# Altium schematic symbol library SparkFun-Retired.SCHLIB: 389 symbols (part 3 of 4)
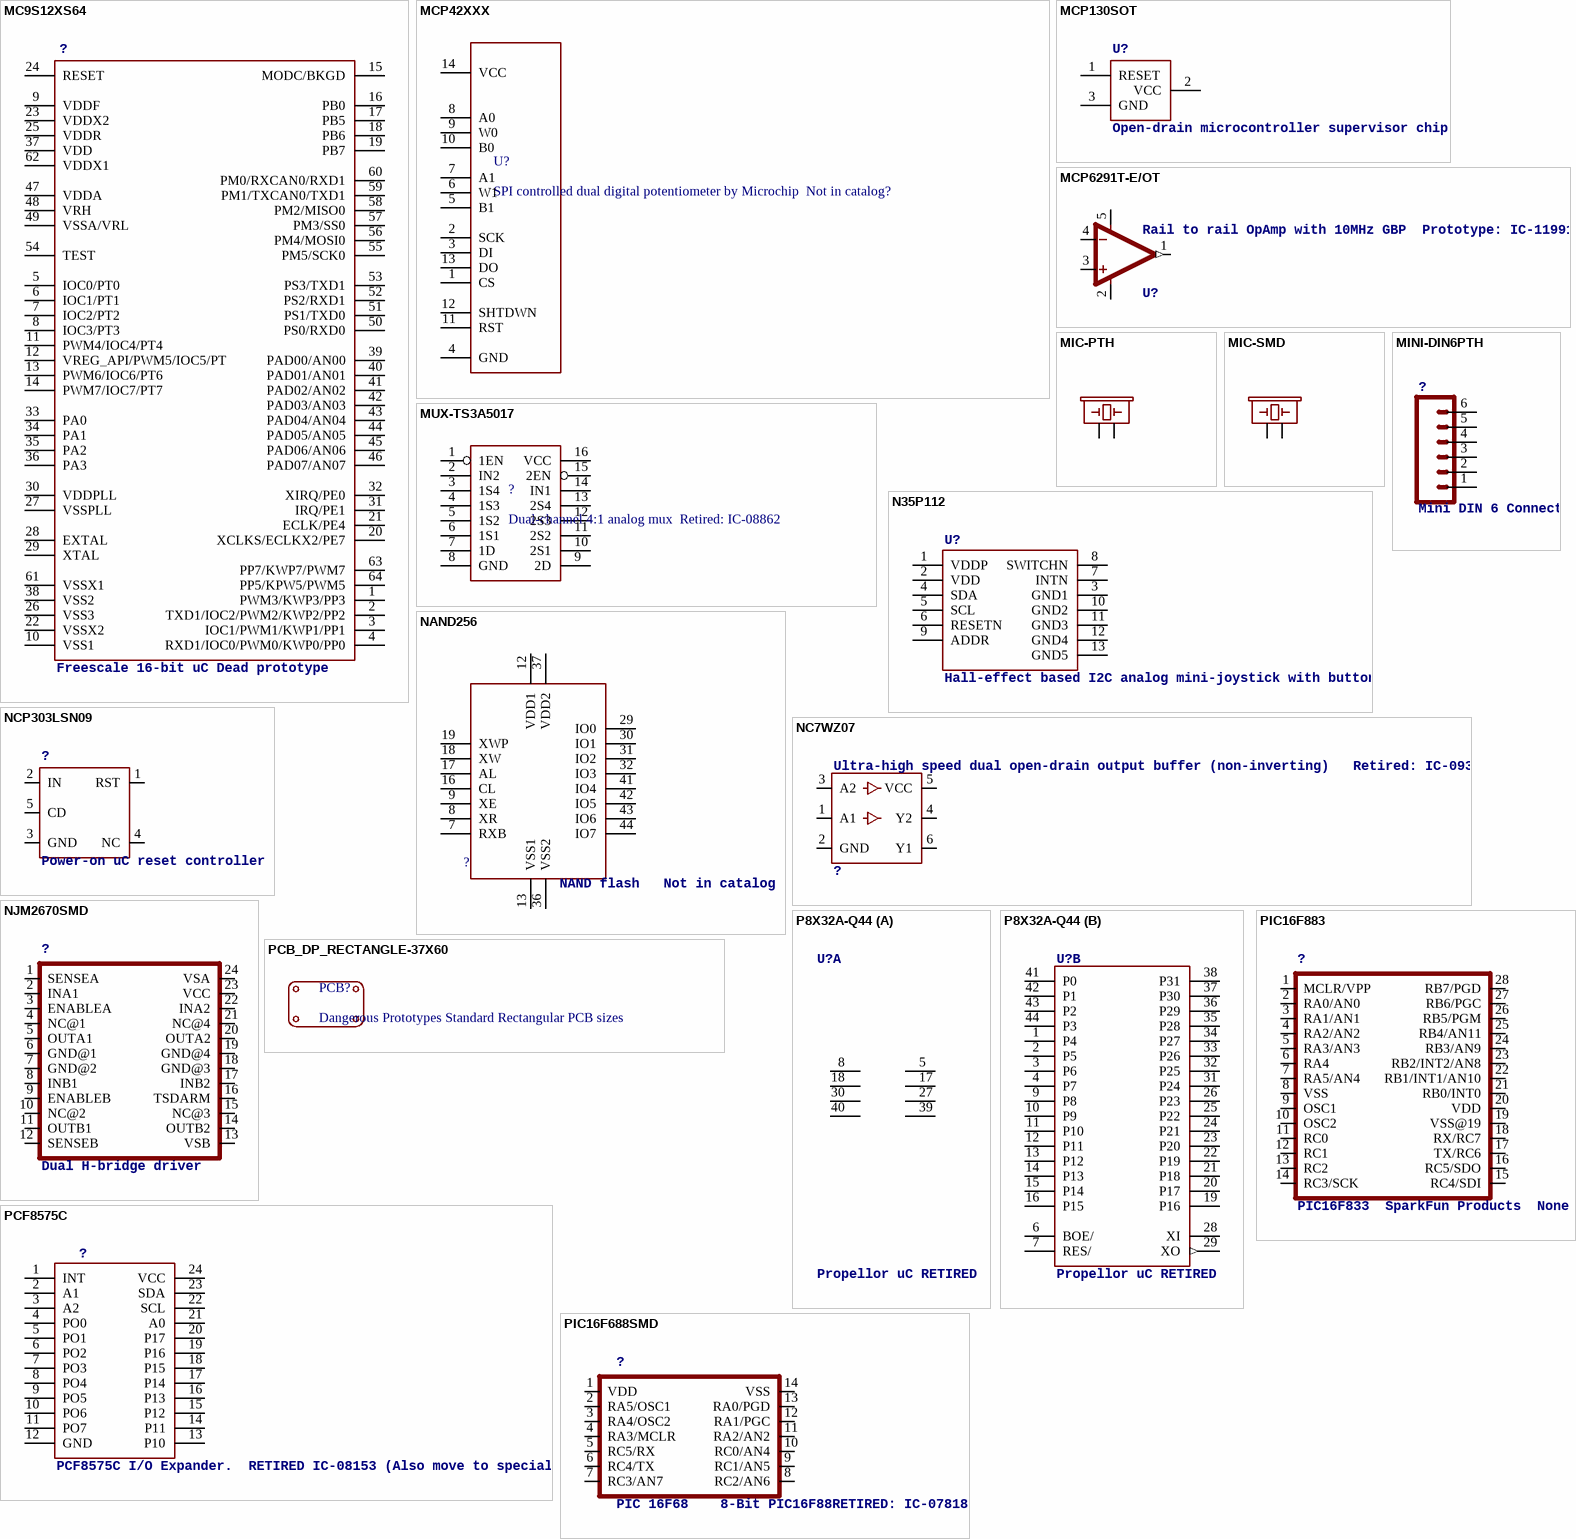
[diagram p31: symbols MC9S12XS64 to PIC16F883]

## MC9S12XS64
designator ?, comment Freescale 16-bit uC Dead prototype
PROD_ID: IC-09432
footprint SQFP-S-10X10-64_MCU
pins: 1 PWM3/KWP3/PP3, 2 TXD1/IOC2/PWM2/KWP2/PP2, 3 IOC1/PWM1/KWP1/PP1, 4 RXD1/IOC0/PWM0/KWP0/PP0, 5 IOC0/PT0, 6 IOC1/PT1, 7 IOC2/PT2, 8 IOC3/PT3, 9 VDDF, 10 VSS1, 11 PWM4/IOC4/PT4, 12 VREG_API/PWM5/IOC5/PT, 13 PWM6/IOC6/PT6, 14 PWM7/IOC7/PT7, 15 MODC/BKGD, 16 PB0, 17 PB5, 18 PB6, 19 PB7, 20 XCLKS/ECLKX2/PE7, 21 ECLK/PE4, 22 VSSX2, 23 VDDX2, 24 RESET, 25 VDDR, 26 VSS3, 27 VSSPLL, 28 EXTAL, 29 XTAL, 30 VDDPLL, 31 IRQ/PE1, 32 XIRQ/PE0, 33 PA0, 34 PA1, 35 PA2, 36 PA3, 37 VDD, 38 VSS2, 39 PAD00/AN00, 40 PAD01/AN01, 41 PAD02/AN02, 42 PAD03/AN03, 43 PAD04/AN04, 44 PAD05/AN05, 45 PAD06/AN06, 46 PAD07/AN07, 47 VDDA, 48 VRH, 49 VSSA/VRL, 50 PS0/RXD0, 51 PS1/TXD0, 52 PS2/RXD1, 53 PS3/TXD1, 54 TEST, 55 PM5/SCK0, 56 PM4/MOSI0, 57 PM3/SS0, 58 PM2/MISO0, 59 PM1/TXCAN0/TXD1, 60 PM0/RXCAN0/RXD1, 61 VSSX1, 62 VDDX1, 63 PP7/KWP7/PWM7, 64 PP5/KPW5/PWM5

## MCP42XXX
designator U?, comment SPI controlled dual digital potentiometer by Microchip  Not in catalog?
footprint SO014
pins: 1 CS, 2 SCK, 3 DI, 4 GND, 5 B1, 6 W1, 7 A1, 8 A0, 9 W0, 10 B0, 11 RST, 12 SHTDWN, 13 DO, 14 VCC

## MCP130SOT
designator U?, comment Open-drain microcontroller supervisor chip
footprint SOT23-3
pins: 1 RESET, 2 VCC, 3 GND

## MCP6291T-E/OT
designator U?, comment Rail to rail OpAmp with 10MHz GBP  Prototype: IC-11991
PROD_ID: IC-11991
footprint SOT23-5
pins: 1 OUT (out), 2 V- (power), 3 +IN, 4 -IN, 5 V+ (power)

## MIC-PTH
designator MK?, comment Microphone    Omni-directional electret microphones - one through-hole, the other SMD.   Datasheet (through-hole mic)   Datasheet (SMD mic) SparkFun Products  PTH Electret Microphone (COM-08635)  SparkFun Electret Microphone Breakout  (BOB-09964)  Digital Sandbox (DEV-12651)  SparkFun Sound Detector (SEN-12642)     SMD Microphone SparkFun Voice Recorder Breakout - ISD1932 (BOB-10653)
PROD_ID: COMP-08856; SF_ID: COM-08635
footprint MICROPHONE-PTH-9.7MM
pins: 1, 2

## MIC-SMD
designator MK?, comment Microphone    Omni-directional electret microphones - one through-hole, the other SMD.   Datasheet (through-hole mic)   Datasheet (SMD mic) SparkFun Products  PTH Electret Microphone (COM-08635)  SparkFun Electret Microphone Breakout  (BOB-09964)  Digital Sandbox (DEV-12651)  SparkFun Sound Detector (SEN-12642)     SMD Microphone SparkFun Voice Recorder Breakout - ISD1932 (BOB-10653)
PROD_ID: COMP-10458
footprint MICROPHONE-SMD-6MM
pins: 1, 2

## MINI-DIN6PTH
designator ?, comment Mini DIN 6 Connector SparkFun used to sell this connector and has used it on a couple designs, however the connector and the designs are now retired.   Mini DIN 6 Connector [RETIRED]  SparkFun Key Counter - PS2 [RETIRED]  Commonly found on the back of a computer for PS2 keyboard and mice. Schematic and footprint are proven.
footprint MINI-DIN6
pins: 1, 2, 3, 4, 5, 6

## MUX-TS3A5017
designator ?, comment Dual-channel 4:1 analog mux  Retired: IC-08862
footprint SO16
pins: 1 1EN, 2 IN2, 3 1S4, 4 1S3, 5 1S2, 6 1S1, 7 1D, 8 GND, 9 2D, 10 2S1, 11 2S2, 12 2S3, 13 2S4, 14 IN1, 15 2EN, 16 VCC

## N35P112
designator U?, comment Hall-effect based I2C analog mini-joystick with button
PROD_ID: SWCH-10635
footprint N35P112
pins: 1 VDDP, 2 VDD, 3 GND1, 4 SDA, 5 SCL, 6 RESETN, 7 INTN, 8 SWITCHN, 9 ADDR, 10 GND2, 11 GND3, 12 GND4, 13 GND5

## NAND256
designator ?, comment NAND flash   Not in catalog
footprint TSOP48
pins: 7 RXB, 8 XR, 9 XE, 12 VDD1, 13 VSS1, 16 CL, 17 AL, 18 XW, 19 XWP, 29 IO0, 30 IO1, 31 IO2, 32 IO3, 36 VSS2, 37 VDD2, 41 IO4, 42 IO5, 43 IO6, 44 IO7

## NC7WZ07
designator ?, comment Ultra-high speed dual open-drain output buffer (non-inverting)   Retired: IC-09351
footprint SC70-6
pins: 1 A1, 2 GND, 3 A2, 4 Y2, 5 VCC, 6 Y1

## NCP303LSN09
designator ?, comment Power-on uC reset controller
footprint SOT23-5
pins: 1 RST, 2 IN, 3 GND, 4 NC, 5 CD

## NJM2670SMD
designator ?, comment Dual H-bridge driver
footprint SO-24W
pins: 1 SENSEA, 2 INA1, 3 ENABLEA, 4 NC@1, 5 OUTA1 (power), 6 GND@1 (power), 7 GND@2, 8 INB1, 9 ENABLEB, 10 NC@2, 11 OUTB1, 12 SENSEB, 13 VSB, 14 OUTB2, 15 NC@3, 16 TSDARM, 17 INB2, 18 GND@3, 19 GND@4 (power), 20 OUTA2 (power), 21 NC@4, 22 INA2, 23 VCC, 24 VSA

## P8X32A-Q44
designator U?, comment Propellor uC RETIRED
PROD_ID: IC-10929
footprint P8X32A-Q44_MCU
part A pins: 5 VSS@1 (power), 8 VDD@1 (power), 17 VSS@2 (power), 18 VDD@2 (power), 27 VSS@3 (power), 30 VDD@3 (power), 39 VSS@4 (power), 40 VDD@4 (power)
part B pins: 1 P4, 2 P5, 3 P6, 4 P7, 6 BOE/, 7 RES/, 9 P8, 10 P9, 11 P10, 12 P11, 13 P12, 14 P13, 15 P14, 16 P15, 19 P16, 20 P17, 21 P18, 22 P19, 23 P20, 24 P21, 25 P22, 26 P23, 28 XI, 29 XO (out), 31 P24, 32 P25, 33 P26, 34 P27, 35 P28, 36 P29, 37 P30, 38 P31, 41 P0, 42 P1, 43 P2, 44 P3

## PCB_DP_RECTANGLE-37X60
designator PCB?, comment Dangerous Prototypes Standard Rectangular PCB sizes
footprint DP6037_V1

## PCF8575C
designator ?, comment PCF8575C I/O Expander.  RETIRED IC-08153 (Also move to special)
footprint SO-24DW
pins: 1 INT, 2 A1, 3 A2, 4 PO0, 5 PO1, 6 PO2, 7 PO3, 8 PO4, 9 PO5, 10 PO6, 11 PO7, 12 GND, 13 P10, 14 P11, 15 P12, 16 P13, 17 P14, 18 P15, 19 P16, 20 P17, 21 A0, 22 SCL, 23 SDA, 24 VCC

## PIC16F688SMD
designator ?, comment PIC 16F68    8-Bit PIC16F88RETIRED: IC-07818
footprint SO14_MCU
pins: 1 VDD (power), 2 RA5/OSC1, 3 RA4/OSC2, 4 RA3/MCLR, 5 RC5/RX, 6 RC4/TX, 7 RC3/AN7, 8 RC2/AN6, 9 RC1/AN5, 10 RC0/AN4, 11 RA2/AN2, 12 RA1/PGC, 13 RA0/PGD, 14 VSS (power)

## PIC16F883
designator ?, comment PIC16F833  SparkFun Products  None
footprint SO-28W_MCU
pins: 1 MCLR/VPP, 2 RA0/AN0, 3 RA1/AN1, 4 RA2/AN2, 5 RA3/AN3, 6 RA4, 7 RA5/AN4, 8 VSS (power), 9 OSC1, 10 OSC2, 11 RC0, 12 RC1, 13 RC2, 14 RC3/SCK, 15 RC4/SDI, 16 RC5/SDO, 17 TX/RC6, 18 RX/RC7, 19 VSS@19 (power), 20 VDD (power), 21 RB0/INT0, 22 RB1/INT1/AN10, 23 RB2/INT2/AN8, 24 RB3/AN9, 25 RB4/AN11, 26 RB5/PGM, 27 RB6/PGC, 28 RB7/PGD

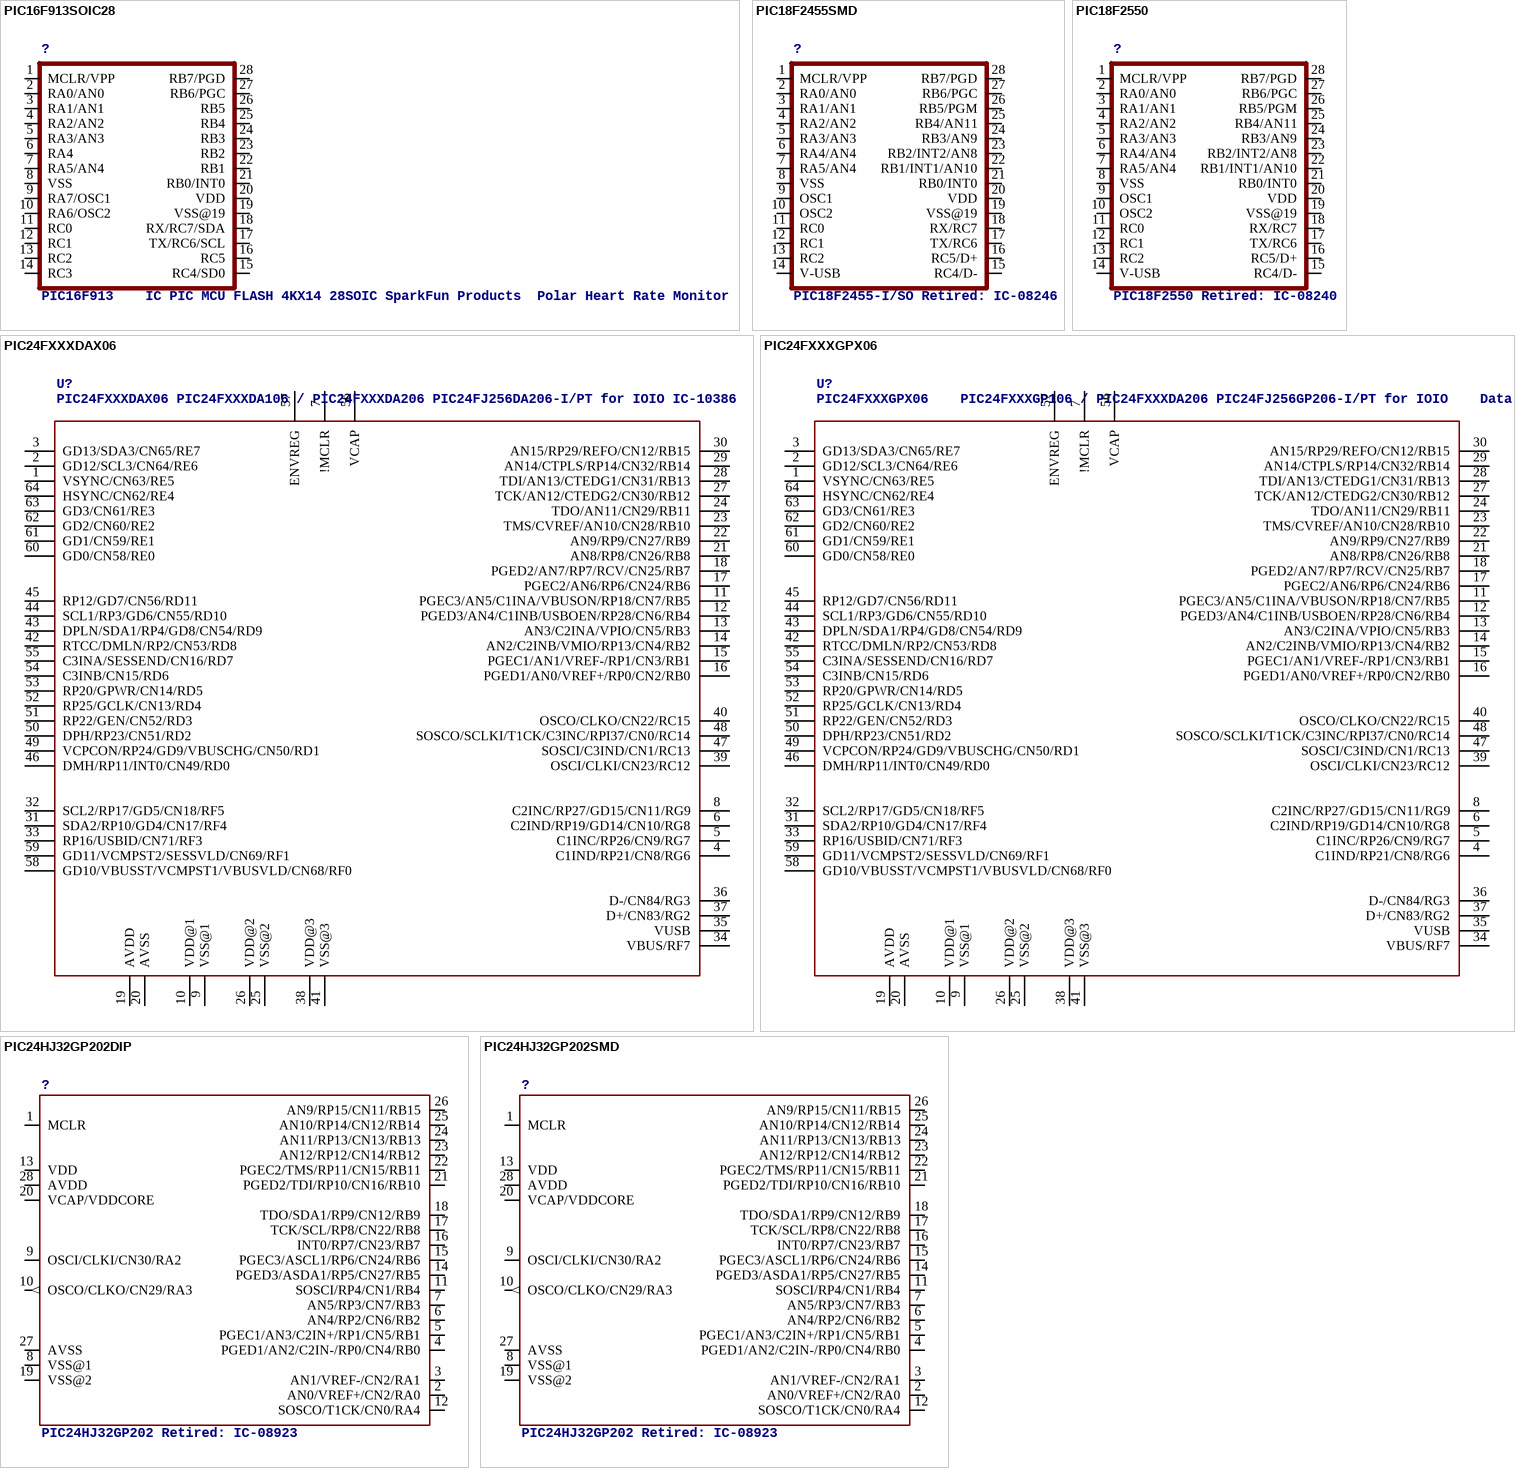
[diagram p20: symbols PIC16F913SOIC28 to PIC24HJ32GP202SMD]

## PIC16F913SOIC28
designator ?, comment PIC16F913    IC PIC MCU FLASH 4KX14 28SOIC SparkFun Products  Polar Heart Rate Monitor Interface (SEN-08661)    Short timer
footprint SO-28W_MCU
pins: 1 MCLR/VPP, 2 RA0/AN0, 3 RA1/AN1, 4 RA2/AN2, 5 RA3/AN3, 6 RA4, 7 RA5/AN4, 8 VSS (power), 9 RA7/OSC1, 10 RA6/OSC2, 11 RC0, 12 RC1, 13 RC2, 14 RC3, 15 RC4/SD0, 16 RC5, 17 TX/RC6/SCL, 18 RX/RC7/SDA, 19 VSS@19 (power), 20 VDD (power), 21 RB0/INT0, 22 RB1, 23 RB2, 24 RB3, 25 RB4, 26 RB5, 27 RB6/PGC, 28 RB7/PGD

## PIC18F2455SMD
designator ?, comment PIC18F2455-I/SO Retired: IC-08246
footprint SO-28W_MCU
pins: 1 MCLR/VPP, 2 RA0/AN0, 3 RA1/AN1, 4 RA2/AN2, 5 RA3/AN3, 6 RA4/AN4, 7 RA5/AN4, 8 VSS (power), 9 OSC1, 10 OSC2, 11 RC0, 12 RC1, 13 RC2, 14 V-USB, 15 RC4/D-, 16 RC5/D+, 17 TX/RC6, 18 RX/RC7, 19 VSS@19 (power), 20 VDD (power), 21 RB0/INT0, 22 RB1/INT1/AN10, 23 RB2/INT2/AN8, 24 RB3/AN9, 25 RB4/AN11, 26 RB5/PGM, 27 RB6/PGC, 28 RB7/PGD

## PIC18F2550
designator ?, comment PIC18F2550 Retired: IC-08240
footprint DIP28_MCU
pins: 1 MCLR/VPP, 2 RA0/AN0, 3 RA1/AN1, 4 RA2/AN2, 5 RA3/AN3, 6 RA4/AN4, 7 RA5/AN4, 8 VSS (power), 9 OSC1, 10 OSC2, 11 RC0, 12 RC1, 13 RC2, 14 V-USB, 15 RC4/D-, 16 RC5/D+, 17 TX/RC6, 18 RX/RC7, 19 VSS@19 (power), 20 VDD (power), 21 RB0/INT0, 22 RB1/INT1/AN10, 23 RB2/INT2/AN8, 24 RB3/AN9, 25 RB4/AN11, 26 RB5/PGM, 27 RB6/PGC, 28 RB7/PGD

## PIC24FXXXDAX06
designator U?, comment PIC24FXXXDAX06 PIC24FXXXDA106 / PIC24FXXXDA206 PIC24FJ256DA206-I/PT for IOIO IC-10386
PROD_ID: IC-10386
footprint PIC24FXXX_TQFP64
pins: 1 VSYNC/CN63/RE5, 2 GD12/SCL3/CN64/RE6, 3 GD13/SDA3/CN65/RE7, 4 C1IND/RP21/CN8/RG6, 5 C1INC/RP26/CN9/RG7, 6 C2IND/RP19/GD14/CN10/RG8, 7 !MCLR, 8 C2INC/RP27/GD15/CN11/RG9, 9 VSS@1 (power), 10 VDD@1 (power), 11 PGEC3/AN5/C1INA/VBUSON/RP18/CN7/RB5, 12 PGED3/AN4/C1INB/USBOEN/RP28/CN6/RB4, 13 AN3/C2INA/VPIO/CN5/RB3, 14 AN2/C2INB/VMIO/RP13/CN4/RB2, 15 PGEC1/AN1/VREF-/RP1/CN3/RB1, 16 PGED1/AN0/VREF+/RP0/CN2/RB0, 17 PGEC2/AN6/RP6/CN24/RB6, 18 PGED2/AN7/RP7/RCV/CN25/RB7, 19 AVDD (power), 20 AVSS (power), 21 AN8/RP8/CN26/RB8, 22 AN9/RP9/CN27/RB9, 23 TMS/CVREF/AN10/CN28/RB10, 24 TDO/AN11/CN29/RB11, 25 VSS@2 (power), 26 VDD@2 (power), 27 TCK/AN12/CTEDG2/CN30/RB12, 28 TDI/AN13/CTEDG1/CN31/RB13, 29 AN14/CTPLS/RP14/CN32/RB14, 30 AN15/RP29/REFO/CN12/RB15, 31 SDA2/RP10/GD4/CN17/RF4, 32 SCL2/RP17/GD5/CN18/RF5, 33 RP16/USBID/CN71/RF3, 34 VBUS/RF7, 35 VUSB (power), 36 D-/CN84/RG3, 37 D+/CN83/RG2, 38 VDD@3 (power), 39 OSCI/CLKI/CN23/RC12, 40 OSCO/CLKO/CN22/RC15, 41 VSS@3 (power), 42 RTCC/DMLN/RP2/CN53/RD8, 43 DPLN/SDA1/RP4/GD8/CN54/RD9, 44 SCL1/RP3/GD6/CN55/RD10, 45 RP12/GD7/CN56/RD11, 46 DMH/RP11/INT0/CN49/RD0, 47 SOSCI/C3IND/CN1/RC13, 48 SOSCO/SCLKI/T1CK/C3INC/RPI37/CN0/RC14, 49 VCPCON/RP24/GD9/VBUSCHG/CN50/RD1, 50 DPH/RP23/CN51/RD2, 51 RP22/GEN/CN52/RD3, 52 RP25/GCLK/CN13/RD4, 53 RP20/GPWR/CN14/RD5, 54 C3INB/CN15/RD6, 55 C3INA/SESSEND/CN16/RD7, 56 VCAP (power), 57 ENVREG, 58 GD10/VBUSST/VCMPST1/VBUSVLD/CN68/RF0, 59 GD11/VCMPST2/SESSVLD/CN69/RF1, 60 GD0/CN58/RE0, 61 GD1/CN59/RE1, 62 GD2/CN60/RE2, 63 GD3/CN61/RE3, 64 HSYNC/CN62/RE4

## PIC24FXXXGPX06
designator U?, comment PIC24FXXXGPX06    PIC24FXXXGP106 / PIC24FXXXDA206 PIC24FJ256GP206-I/PT for IOIO    Datasheet SparkFun Products  IOIO-OTG - V2.2 (DEV-13613)
PROD_ID: IC-11312
footprint PIC24FXXX_TQFP64_MCU
pins: 1 VSYNC/CN63/RE5, 2 GD12/SCL3/CN64/RE6, 3 GD13/SDA3/CN65/RE7, 4 C1IND/RP21/CN8/RG6, 5 C1INC/RP26/CN9/RG7, 6 C2IND/RP19/GD14/CN10/RG8, 7 !MCLR, 8 C2INC/RP27/GD15/CN11/RG9, 9 VSS@1 (power), 10 VDD@1 (power), 11 PGEC3/AN5/C1INA/VBUSON/RP18/CN7/RB5, 12 PGED3/AN4/C1INB/USBOEN/RP28/CN6/RB4, 13 AN3/C2INA/VPIO/CN5/RB3, 14 AN2/C2INB/VMIO/RP13/CN4/RB2, 15 PGEC1/AN1/VREF-/RP1/CN3/RB1, 16 PGED1/AN0/VREF+/RP0/CN2/RB0, 17 PGEC2/AN6/RP6/CN24/RB6, 18 PGED2/AN7/RP7/RCV/CN25/RB7, 19 AVDD (power), 20 AVSS (power), 21 AN8/RP8/CN26/RB8, 22 AN9/RP9/CN27/RB9, 23 TMS/CVREF/AN10/CN28/RB10, 24 TDO/AN11/CN29/RB11, 25 VSS@2 (power), 26 VDD@2 (power), 27 TCK/AN12/CTEDG2/CN30/RB12, 28 TDI/AN13/CTEDG1/CN31/RB13, 29 AN14/CTPLS/RP14/CN32/RB14, 30 AN15/RP29/REFO/CN12/RB15, 31 SDA2/RP10/GD4/CN17/RF4, 32 SCL2/RP17/GD5/CN18/RF5, 33 RP16/USBID/CN71/RF3, 34 VBUS/RF7, 35 VUSB (power), 36 D-/CN84/RG3, 37 D+/CN83/RG2, 38 VDD@3 (power), 39 OSCI/CLKI/CN23/RC12, 40 OSCO/CLKO/CN22/RC15, 41 VSS@3 (power), 42 RTCC/DMLN/RP2/CN53/RD8, 43 DPLN/SDA1/RP4/GD8/CN54/RD9, 44 SCL1/RP3/GD6/CN55/RD10, 45 RP12/GD7/CN56/RD11, 46 DMH/RP11/INT0/CN49/RD0, 47 SOSCI/C3IND/CN1/RC13, 48 SOSCO/SCLKI/T1CK/C3INC/RPI37/CN0/RC14, 49 VCPCON/RP24/GD9/VBUSCHG/CN50/RD1, 50 DPH/RP23/CN51/RD2, 51 RP22/GEN/CN52/RD3, 52 RP25/GCLK/CN13/RD4, 53 RP20/GPWR/CN14/RD5, 54 C3INB/CN15/RD6, 55 C3INA/SESSEND/CN16/RD7, 56 VCAP (power), 57 ENVREG, 58 GD10/VBUSST/VCMPST1/VBUSVLD/CN68/RF0, 59 GD11/VCMPST2/SESSVLD/CN69/RF1, 60 GD0/CN58/RE0, 61 GD1/CN59/RE1, 62 GD2/CN60/RE2, 63 GD3/CN61/RE3, 64 HSYNC/CN62/RE4

## PIC24HJ32GP202DIP
designator ?, comment PIC24HJ32GP202 Retired: IC-08923
footprint DIP28_MCU
pins: 1 MCLR, 2 AN0/VREF+/CN2/RA0, 3 AN1/VREF-/CN2/RA1, 4 PGED1/AN2/C2IN-/RP0/CN4/RB0, 5 PGEC1/AN3/C2IN+/RP1/CN5/RB1, 6 AN4/RP2/CN6/RB2, 7 AN5/RP3/CN7/RB3, 8 VSS@1 (power), 9 OSCI/CLKI/CN30/RA2, 10 OSCO/CLKO/CN29/RA3 (out), 11 SOSCI/RP4/CN1/RB4, 12 SOSCO/T1CK/CN0/RA4, 13 VDD (power), 14 PGED3/ASDA1/RP5/CN27/RB5, 15 PGEC3/ASCL1/RP6/CN24/RB6, 16 INT0/RP7/CN23/RB7, 17 TCK/SCL/RP8/CN22/RB8, 18 TDO/SDA1/RP9/CN12/RB9, 19 VSS@2 (power), 20 VCAP/VDDCORE (power), 21 PGED2/TDI/RP10/CN16/RB10, 22 PGEC2/TMS/RP11/CN15/RB11, 23 AN12/RP12/CN14/RB12, 24 AN11/RP13/CN13/RB13, 25 AN10/RP14/CN12/RB14, 26 AN9/RP15/CN11/RB15, 27 AVSS (power), 28 AVDD (power)

## PIC24HJ32GP202SMD
designator ?, comment PIC24HJ32GP202 Retired: IC-08923
footprint SO-28W_MCU
pins: 1 MCLR, 2 AN0/VREF+/CN2/RA0, 3 AN1/VREF-/CN2/RA1, 4 PGED1/AN2/C2IN-/RP0/CN4/RB0, 5 PGEC1/AN3/C2IN+/RP1/CN5/RB1, 6 AN4/RP2/CN6/RB2, 7 AN5/RP3/CN7/RB3, 8 VSS@1 (power), 9 OSCI/CLKI/CN30/RA2, 10 OSCO/CLKO/CN29/RA3 (out), 11 SOSCI/RP4/CN1/RB4, 12 SOSCO/T1CK/CN0/RA4, 13 VDD (power), 14 PGED3/ASDA1/RP5/CN27/RB5, 15 PGEC3/ASCL1/RP6/CN24/RB6, 16 INT0/RP7/CN23/RB7, 17 TCK/SCL/RP8/CN22/RB8, 18 TDO/SDA1/RP9/CN12/RB9, 19 VSS@2 (power), 20 VCAP/VDDCORE (power), 21 PGED2/TDI/RP10/CN16/RB10, 22 PGEC2/TMS/RP11/CN15/RB11, 23 AN12/RP12/CN14/RB12, 24 AN11/RP13/CN13/RB13, 25 AN10/RP14/CN12/RB14, 26 AN9/RP15/CN11/RB15, 27 AVSS (power), 28 AVDD (power)

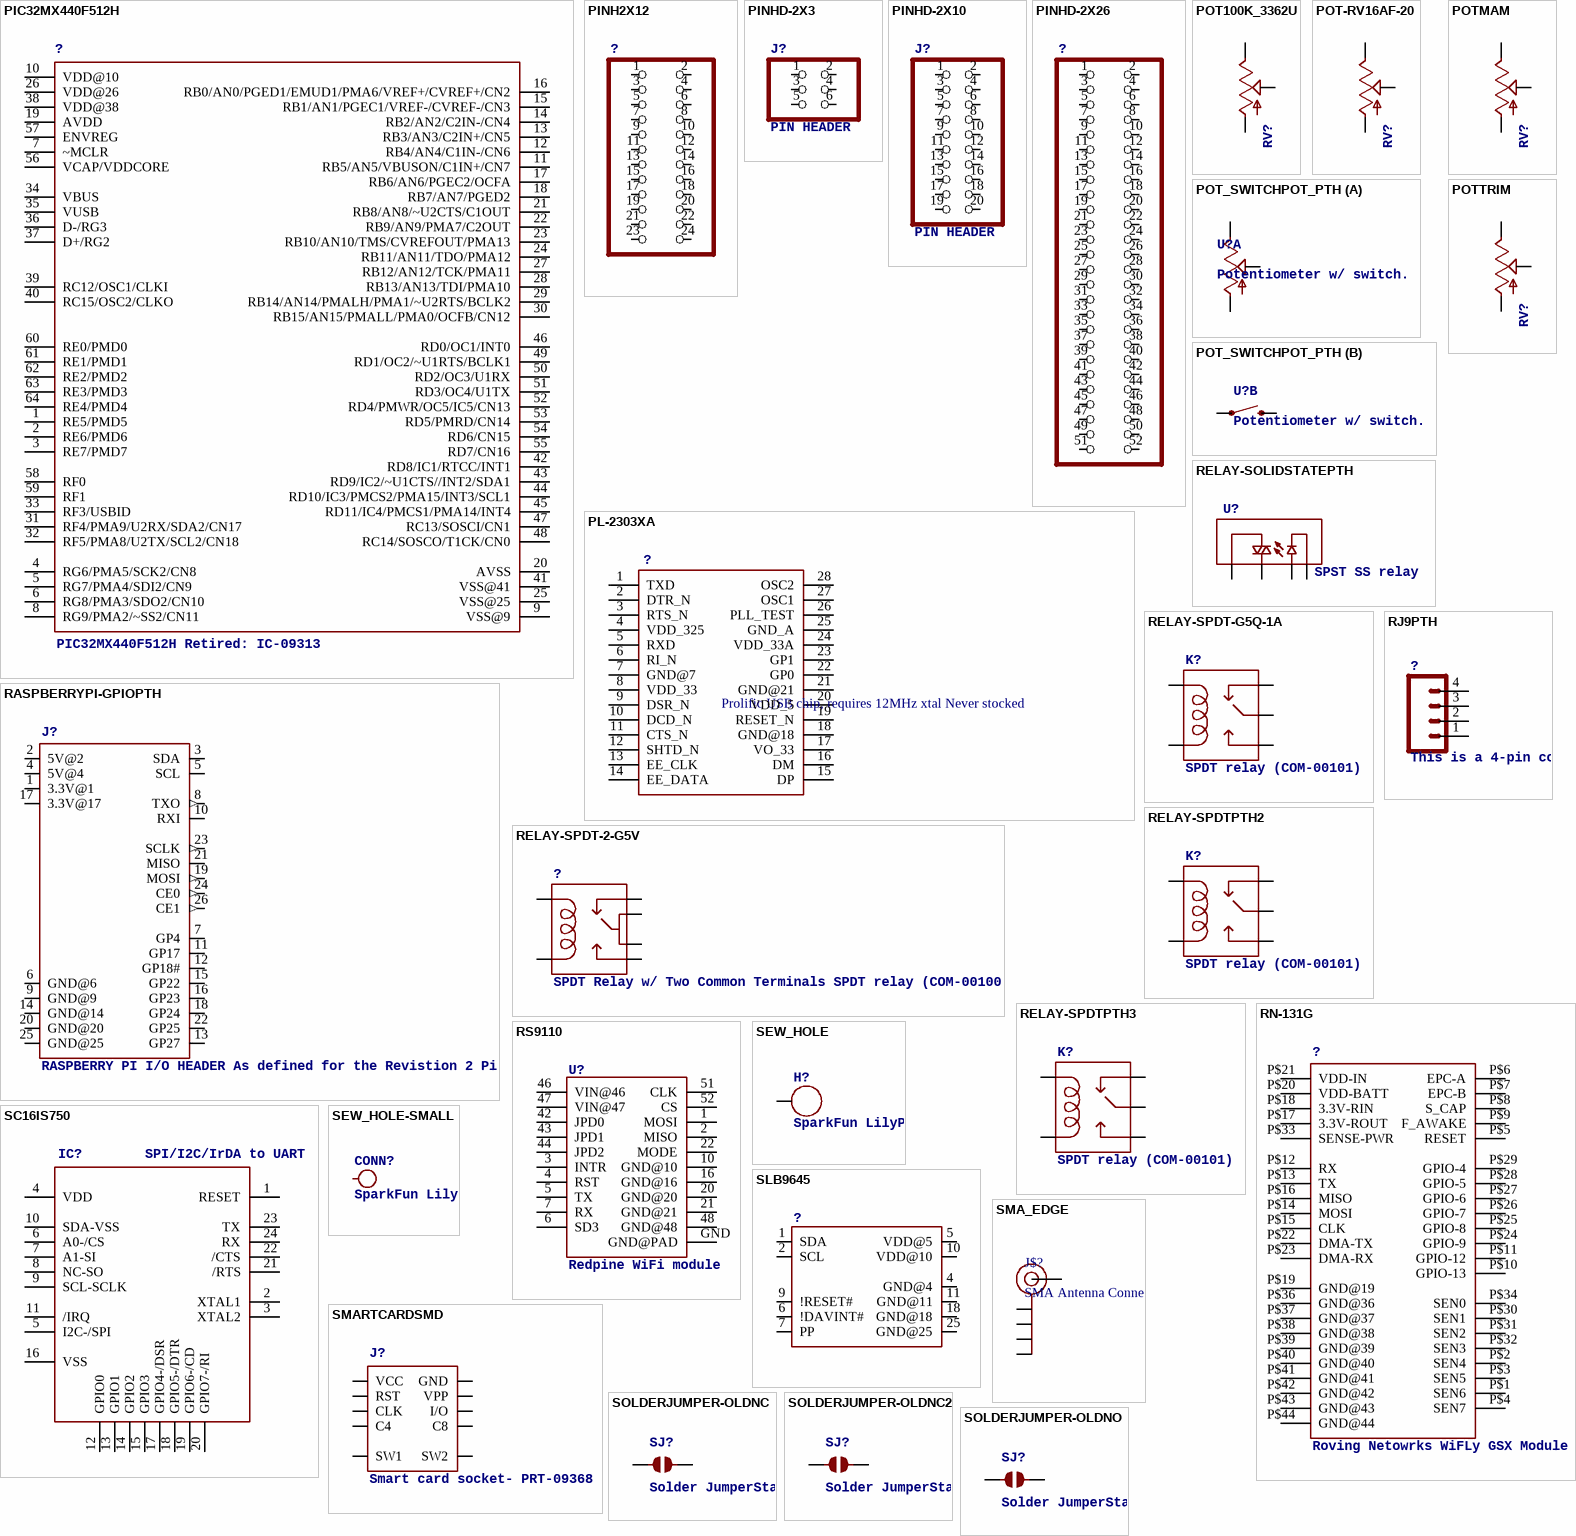
[diagram p21: symbols PIC32MX440F512H to SOLDERJUMPER-OLDNO]

## PIC32MX440F512H
designator ?, comment PIC32MX440F512H Retired: IC-09313
footprint SQFP-S-10X10-64_MCU
pins: 1 RE5/PMD5, 2 RE6/PMD6, 3 RE7/PMD7, 4 RG6/PMA5/SCK2/CN8, 5 RG7/PMA4/SDI2/CN9, 6 RG8/PMA3/SDO2/CN10, 7 ~MCLR, 8 RG9/PMA2/~SS2/CN11, 9 VSS@9, 10 VDD@10, 11 RB5/AN5/VBUSON/C1IN+/CN7, 12 RB4/AN4/C1IN-/CN6, 13 RB3/AN3/C2IN+/CN5, 14 RB2/AN2/C2IN-/CN4, 15 RB1/AN1/PGEC1/VREF-/CVREF-/CN3, 16 RB0/AN0/PGED1/EMUD1/PMA6/VREF+/CVREF+/CN2, 17 RB6/AN6/PGEC2/OCFA, 18 RB7/AN7/PGED2, 19 AVDD, 20 AVSS, 21 RB8/AN8/~U2CTS/C1OUT, 22 RB9/AN9/PMA7/C2OUT, 23 RB10/AN10/TMS/CVREFOUT/PMA13, 24 RB11/AN11/TDO/PMA12, 25 VSS@25, 26 VDD@26, 27 RB12/AN12/TCK/PMA11, 28 RB13/AN13/TDI/PMA10, 29 RB14/AN14/PMALH/PMA1/~U2RTS/BCLK2, 30 RB15/AN15/PMALL/PMA0/OCFB/CN12, 31 RF4/PMA9/U2RX/SDA2/CN17, 32 RF5/PMA8/U2TX/SCL2/CN18, 33 RF3/USBID, 34 VBUS, 35 VUSB, 36 D-/RG3, 37 D+/RG2, 38 VDD@38, 39 RC12/OSC1/CLKI, 40 RC15/OSC2/CLKO, 41 VSS@41, 42 RD8/IC1/RTCC/INT1, 43 RD9/IC2/~U1CTS//INT2/SDA1, 44 RD10/IC3/PMCS2/PMA15/INT3/SCL1, 45 RD11/IC4/PMCS1/PMA14/INT4, 46 RD0/OC1/INT0, 47 RC13/SOSCI/CN1, 48 RC14/SOSCO/T1CK/CN0, 49 RD1/OC2/~U1RTS/BCLK1, 50 RD2/OC3/U1RX, 51 RD3/OC4/U1TX, 52 RD4/PMWR/OC5/IC5/CN13, 53 RD5/PMRD/CN14, 54 RD6/CN15, 55 RD7/CN16, 56 VCAP/VDDCORE, 57 ENVREG, 58 RF0, 59 RF1, 60 RE0/PMD0, 61 RE1/PMD1, 62 RE2/PMD2, 63 RE3/PMD3, 64 RE4/PMD4

## PINH2X12
designator ?
footprint 2X12
pins: 1, 2, 3, 4, 5, 6, 7, 8, 9, 10, 11, 12, 13, 14, 15, 16, 17, 18, 19, 20, 21, 22, 23, 24

## PINHD-2X3
designator J?, comment PIN HEADER
footprint 2X03
pins: 1, 2, 3, 4, 5, 6

## PINHD-2X10
designator J?, comment PIN HEADER
footprint 2X10
pins: 1, 2, 3, 4, 5, 6, 7, 8, 9, 10, 11, 12, 13, 14, 15, 16, 17, 18, 19, 20

## PINHD-2X26
designator ?
footprint 2X26
pins: 1, 2, 3, 4, 5, 6, 7, 8, 9, 10, 11, 12, 13, 14, 15, 16, 17, 18, 19, 20, 21, 22, 23, 24, 25, 26, 27, 28, 29, 30, 31, 32, 33, 34, 35, 36, 37, 38, 39, 40, 41, 42, 43, 44, 45, 46, 47, 48, 49, 50, 51, 52

## PL-2303XA
designator ?, comment Prolific USB chip, requires 12MHz xtal Never stocked
footprint SSOP28DB
pins: 1 TXD, 2 DTR_N, 3 RTS_N, 4 VDD_325, 5 RXD, 6 RI_N, 7 GND@7, 8 VDD_33, 9 DSR_N, 10 DCD_N, 11 CTS_N, 12 SHTD_N, 13 EE_CLK, 14 EE_DATA, 15 DP, 16 DM, 17 VO_33, 18 GND@18, 19 RESET_N, 20 VDD_5, 21 GND@21, 22 GP0, 23 GP1, 24 VDD_33A, 25 GND_A, 26 PLL_TEST, 27 OSC1, 28 OSC2

## POT100K_3362U
designator RV?
PROD_ID: RES-08876; SF_SKU: COM-08647
footprint 3362U
pins: P$1 E, P$2 S, P$3 A

## POT-RV16AF-20
designator RV?
PROD_ID: RES-10002
footprint POT_ALPHA_RV16AF-20
pins: 1 A, 2 S, 3 E

## POT_SWITCHPOT_PTH
designator U?, comment Potentiometer w/ switch.
footprint POT_PTH
part A pins: E@1 A, E@2 E, WAND S
part B pins: S1 1, S2 2

## POTMAM
designator RV?
footprint POT_MAMMOTH
pins: P$1 S, P$2 A, P$3 E

## POTTRIM
designator RV?
PROD_ID: COM-00104
footprint TRIM_POT
pins: 1 S, 2 E, 3 A

## RASPBERRYPI-GPIOPTH
designator J?, comment RASPBERRY PI I/O HEADER As defined for the Revistion 2 Pi.
DIST: sparkfun; DIST_ID: PRT-11490
footprint 2X13-SHROUDED
pins: 1 3.3V@1 (power), 2 5V@2 (power), 3 SDA, 4 5V@4 (power), 5 SCL, 6 GND@6 (power), 7 GP4, 8 TXO (out), 9 GND@9 (power), 10 RXI, 11 GP17, 12 GP18#, 13 GP27, 14 GND@14 (power), 15 GP22, 16 GP23, 17 3.3V@17 (power), 18 GP24, 19 MOSI (out), 20 GND@20 (power), 21 MISO, 22 GP25, 23 SCLK (out), 24 CE0 (out), 25 GND@25 (power), 26 CE1 (out)

## RELAY-SOLIDSTATEPTH
designator U?, comment SPST SS relay
PROD_ID: SWCH-10481; SF_SKU: COM-10636
footprint RELAY-S108T02
pins: 1 T1, 2 T2, 3 +, 4 -

## RELAY-SPDT-2-G5V
designator ?, comment SPDT Relay w/ Two Common Terminals SPDT relay (COM-00100)
SF_SKU: COM-00524
footprint RELAY-G5V
pins: 1, 2, 5, 6, 9, 10

## RELAY-SPDT-G5Q-1A
designator K?, comment SPDT relay (COM-00101)
footprint RELAY-G5Q
pins: 1 COIL2, 2 MAIN, 3 NO, 4 NC, 5 COIL1

## RELAY-SPDTPTH2
designator K?, comment SPDT relay (COM-00101)
footprint RELAY-T9A
pins: COIL1, COIL2, MAIN, NC, NO

## RELAY-SPDTPTH3
designator K?, comment SPDT relay (COM-00101)
PROD_ID: COMP-10736; SF_SKU: COM-10924
footprint RELAY-T9A-2
pins: COIL1, COIL2, MAIN, NC, NO

## RJ9PTH
designator ?, comment This is a 4-pin connector commonly found on phone handsets. Great for simple TX/RX/PWR/GND connections. Sometime referred to as RJ9 or 4P4C.   SparkFun does not currently use this on any active designs, and the connector alone has been retired. However, for more info visit here:   https://www.sparkfun.com/products/retired/8694
footprint RJ9
pins: 1, 2, 3, 4

## RN-131G
designator ?, comment Roving Netowrks WiFLy GSX Module
PROD_ID: IC-12671; SF_ID: WRL-10004
footprint RN-131G
pins: P$1 SEN6, P$2 SEN4, P$3 SEN5, P$4 SEN7, P$5 RESET, P$6 EPC-A, P$7 EPC-B, P$8 S_CAP, P$9 F_AWAKE, P$10 GPIO-13, P$11 GPIO-12, P$12 RX, P$13 TX, P$14 MOSI, P$15 CLK, P$16 MISO, P$17 3.3V-ROUT, P$18 3.3V-RIN, P$19 GND@19, P$20 VDD-BATT, P$21 VDD-IN, P$22 DMA-TX, P$23 DMA-RX, P$24 GPIO-9, P$25 GPIO-8, P$26 GPIO-7, P$27 GPIO-6, P$28 GPIO-5, P$29 GPIO-4, P$30 SEN1, P$31 SEN2, P$32 SEN3, P$33 SENSE-PWR, P$34 SEN0, P$36 GND@36, P$37 GND@37, P$38 GND@38, P$39 GND@39, P$40 GND@40, P$41 GND@41, P$42 GND@42, P$43 GND@43, P$44 GND@44

## RS9110
designator U?, comment Redpine WiFi module
PROD_ID: IC-10622
footprint RS9110-N-11-22-SHORT
pins: 1 MOSI, 2 MISO, 3 INTR, 4 RST, 5 TX, 6 SD3, 7 RX, 10 GND@10, 16 GND@16, 20 GND@20, 21 GND@21, 22 MODE, 42 JPD0, 43 JPD1, 44 JPD2, 46 VIN@46, 47 VIN@47, 48 GND@48, 51 CLK, 52 CS, GND GND@PAD

## SC16IS750
designator IC?, comment SPI/I2C/IrDA to UART
footprint QFN-24
pins: 1 RESET, 2 XTAL1, 3 XTAL2, 4 VDD, 5 I2C-/SPI, 6 A0-/CS, 7 A1-SI, 8 NC-SO, 9 SCL-SCLK, 10 SDA-VSS, 11 /IRQ, 12 GPIO0, 13 GPIO1, 14 GPIO2, 15 GPIO3, 16 VSS, 17 GPIO4-/DSR, 18 GPIO5-/DTR, 19 GPIO6-/CD, 20 GPIO7-/RI, 21 /RTS, 22 /CTS, 23 TX, 24 RX

## SEW_HOLE
designator H?, comment SparkFun LilyPad Sew Hole    Simple sew-tap with .1" diameter hole with 20mil annular ring   SparkFun Products:  [PRODUCT 1]  [PRODUCT 2]  [PRODUCT 3]
footprint SIMPLE_HOLE
pins: P$1

## SEW_HOLE-SMALL
designator CONN?, comment SparkFun LilyPad Sew Hole    Simple sew-tap with .070" hole with 20mil annular ring   SparkFun Products:  [PRODUCT 1]  [PRODUCT 2]  [PRODUCT 3]
footprint SIMPLE_HOLE_SM
pins: P$1

## SLB9645
designator ?
PROD_ID: IC-XXXX
footprint TSSOP28
pins: 1 SDA, 2 SCL, 4 GND@4, 5 VDD@5, 6 !DAVINT#, 7 PP, 9 !RESET#, 10 VDD@10, 11 GND@11, 18 GND@18, 25 GND@25

## SMA_EDGE
designator J$?, comment SMA Antenna ConnectorEnd launch SMA connector. The paste layer has been removed so that the connector can be hand soldered onto the board after reflow.
footprint SMA-EDGE
pins: GND@0, GND@1, GND@2, GND@3, SIG SIGNAL

## SMARTCARDSMD
designator J?, comment Smart card socket- PRT-09368
footprint SMARTCARD
pins: C1 VCC, C2 RST, C3 CLK, C4, C5 GND, C6 VPP, C7 I/O, C8, P1 SW1, P2 SW2

## SOLDERJUMPER-OLDNC
designator SJ?, comment Solder JumperStandard SMD solder jumper. Used to automate production. Two varients : Normally Open and Normally Closed are the same, but have different paste layers. NC will have a large amount of paste and should jumper during reflow.
footprint SJ_2S
pins: 1, 2

## SOLDERJUMPER-OLDNC2
designator SJ?, comment Solder JumperStandard SMD solder jumper. Used to automate production. Two varients : Normally Open and Normally Closed are the same, but have different paste layers. NC will have a large amount of paste and should jumper during reflow.
footprint SJ_2S-NOTRACE
pins: 1, 2

## SOLDERJUMPER-OLDNO
designator SJ?, comment Solder JumperStandard SMD solder jumper. Used to automate production. Two varients : Normally Open and Normally Closed are the same, but have different paste layers. NC will have a large amount of paste and should jumper during reflow.
footprint SJ_2S-NO
pins: 1, 2

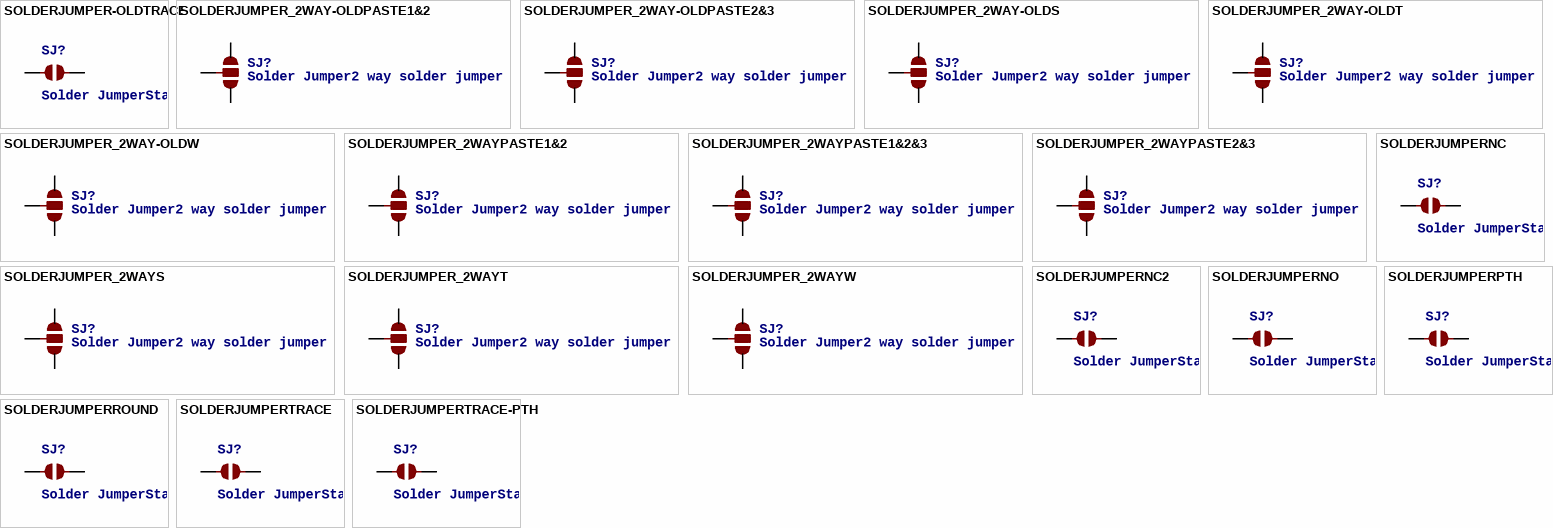
[diagram p22: symbols SOLDERJUMPER-OLDTRACE to SOLDERJUMPERTRACE-PTH]

## SOLDERJUMPER-OLDTRACE
designator SJ?, comment Solder JumperStandard SMD solder jumper. Used to automate production. Two varients : Normally Open and Normally Closed are the same, but have different paste layers. NC will have a large amount of paste and should jumper during reflow.
footprint SJ_2S-TRACE
pins: 1, 2

## SOLDERJUMPER_2WAY-OLDPASTE1&2
designator SJ?, comment Solder Jumper2 way solder jumper
footprint SJ_3_PASTE1&2
pins: 1, 2, 3

## SOLDERJUMPER_2WAY-OLDPASTE2&3
designator SJ?, comment Solder Jumper2 way solder jumper
footprint SJ_3_PASTE2&3
pins: 1, 2, 3

## SOLDERJUMPER_2WAY-OLDS
designator SJ?, comment Solder Jumper2 way solder jumper
footprint SJ_3
pins: 1, 2, 3

## SOLDERJUMPER_2WAY-OLDT
designator SJ?, comment Solder Jumper2 way solder jumper
footprint SJ_2
pins: 1, 2, 3

## SOLDERJUMPER_2WAY-OLDW
designator SJ?, comment Solder Jumper2 way solder jumper
footprint SJ_2W
pins: 1, 2, 3

## SOLDERJUMPER_2WAYPASTE1&2
designator SJ?, comment Solder Jumper2 way solder jumper
footprint SJ_3_PASTE1&2
pins: 1, 2, 3

## SOLDERJUMPER_2WAYPASTE1&2&3
designator SJ?, comment Solder Jumper2 way solder jumper
footprint SJ_3_PASTE1&2&3
pins: 1, 2, 3

## SOLDERJUMPER_2WAYPASTE2&3
designator SJ?, comment Solder Jumper2 way solder jumper
footprint SJ_3_PASTE2&3
pins: 1, 2, 3

## SOLDERJUMPER_2WAYS
designator SJ?, comment Solder Jumper2 way solder jumper
footprint SJ_3
pins: 1, 2, 3

## SOLDERJUMPER_2WAYT
designator SJ?, comment Solder Jumper2 way solder jumper
footprint SJ_2
pins: 1, 2, 3

## SOLDERJUMPER_2WAYW
designator SJ?, comment Solder Jumper2 way solder jumper
footprint SJ_2W
pins: 1, 2, 3

## SOLDERJUMPERNC
designator SJ?, comment Solder JumperStandard SMD solder jumper. Used to automate production. Two varients : Normally Open and Normally Closed are the same, but have different paste layers. NC will have a large amount of paste and should jumper during reflow.
footprint SJ_2S
pins: 1, 2

## SOLDERJUMPERNC2
designator SJ?, comment Solder JumperStandard SMD solder jumper. Used to automate production. Two varients : Normally Open and Normally Closed are the same, but have different paste layers. NC will have a large amount of paste and should jumper during reflow.
footprint SJ_2S-NOTRACE
pins: 1, 2

## SOLDERJUMPERNO
designator SJ?, comment Solder JumperStandard SMD solder jumper. Used to automate production. Two varients : Normally Open and Normally Closed are the same, but have different paste layers. NC will have a large amount of paste and should jumper during reflow.
footprint SJ_2S-NO
pins: 1, 2

## SOLDERJUMPERPTH
designator SJ?, comment Solder JumperStandard SMD solder jumper. Used to automate production. Two varients : Normally Open and Normally Closed are the same, but have different paste layers. NC will have a large amount of paste and should jumper during reflow.
footprint SJ_2S-PTH
pins: 1, 2

## SOLDERJUMPERROUND
designator SJ?, comment Solder JumperStandard SMD solder jumper. Used to automate production. Two varients : Normally Open and Normally Closed are the same, but have different paste layers. NC will have a large amount of paste and should jumper during reflow.
footprint SJ_ROUND
pins: 1, 2

## SOLDERJUMPERTRACE
designator SJ?, comment Solder JumperStandard SMD solder jumper. Used to automate production. Two varients : Normally Open and Normally Closed are the same, but have different paste layers. NC will have a large amount of paste and should jumper during reflow.
footprint SJ_2S-TRACE
pins: 1, 2

## SOLDERJUMPERTRACE-PTH
designator SJ?, comment Solder JumperStandard SMD solder jumper. Used to automate production. Two varients : Normally Open and Normally Closed are the same, but have different paste layers. NC will have a large amount of paste and should jumper during reflow.
footprint SJ_2S-TRACE-PTH
pins: 1, 2

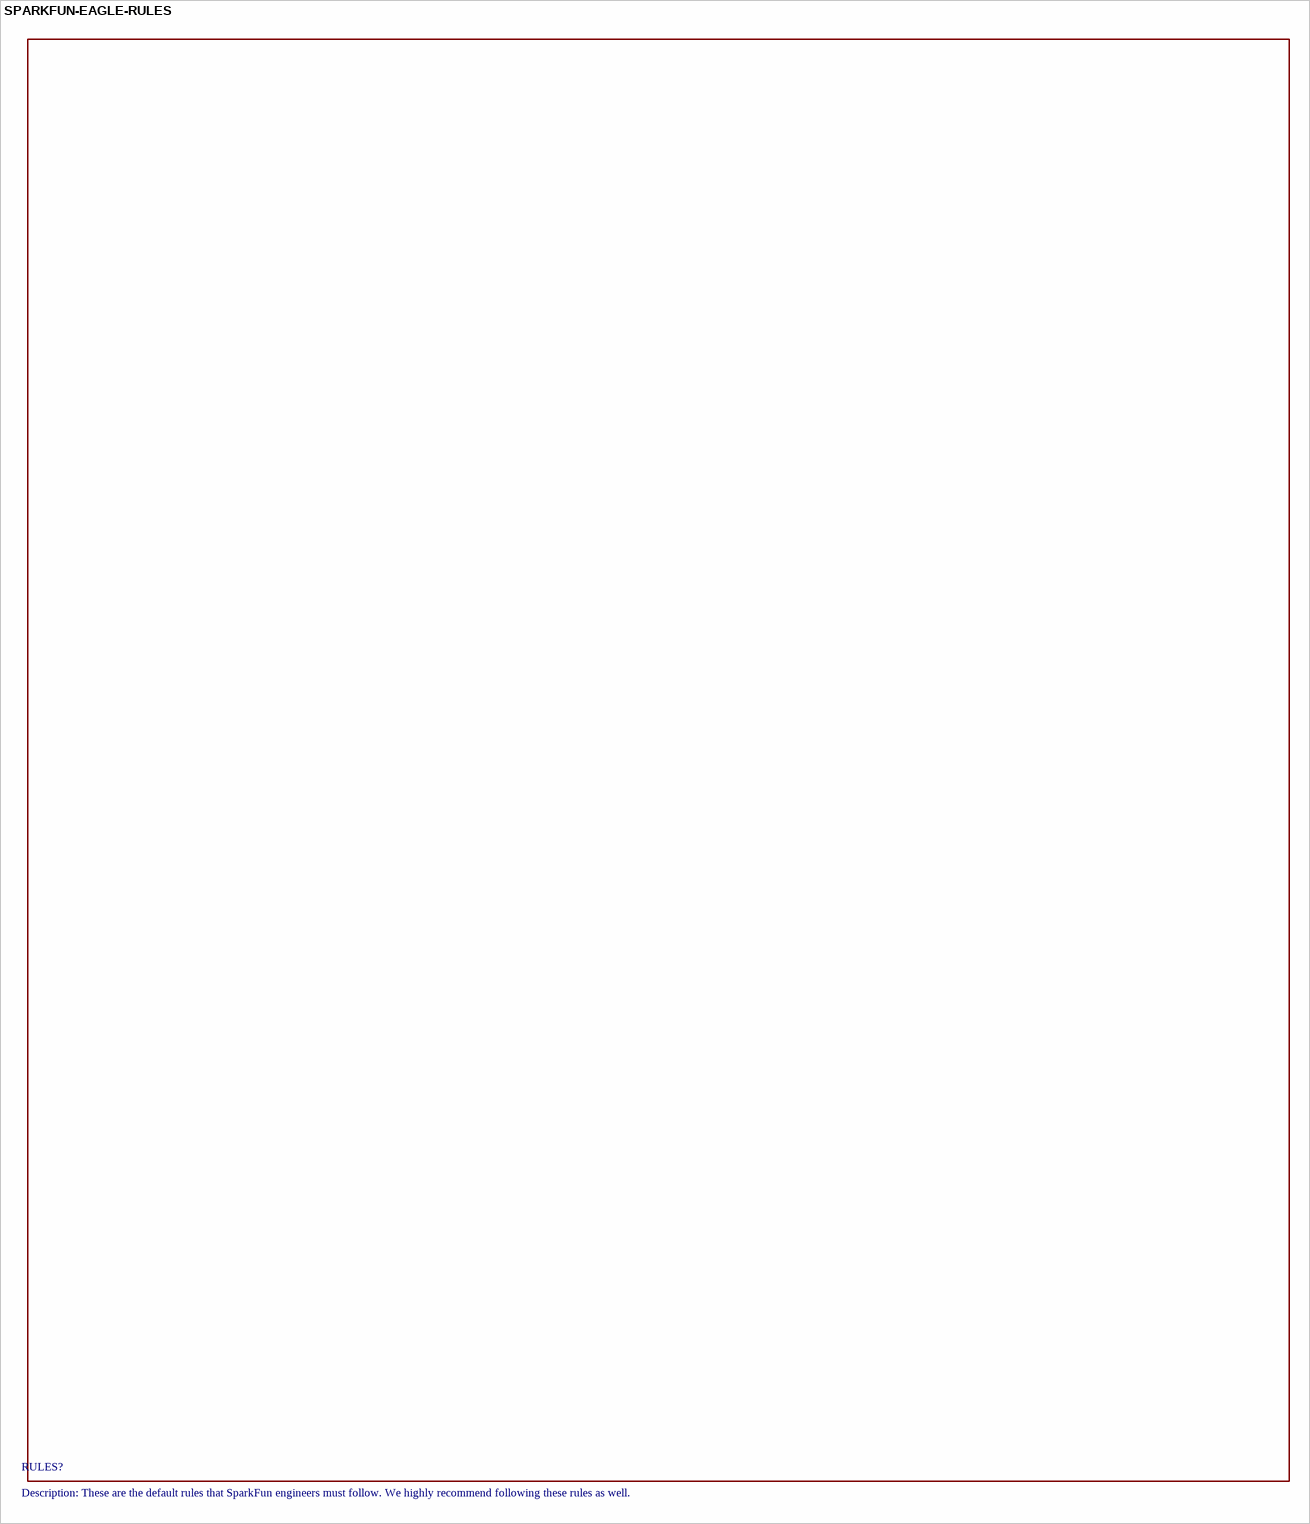
[diagram p23: symbol SPARKFUN-EAGLE-RULES]

## SPARKFUN-EAGLE-RULES
designator RULES?, comment Description: These are the default rules that SparkFun engineers must follow. We highly recommend following these rules as well.

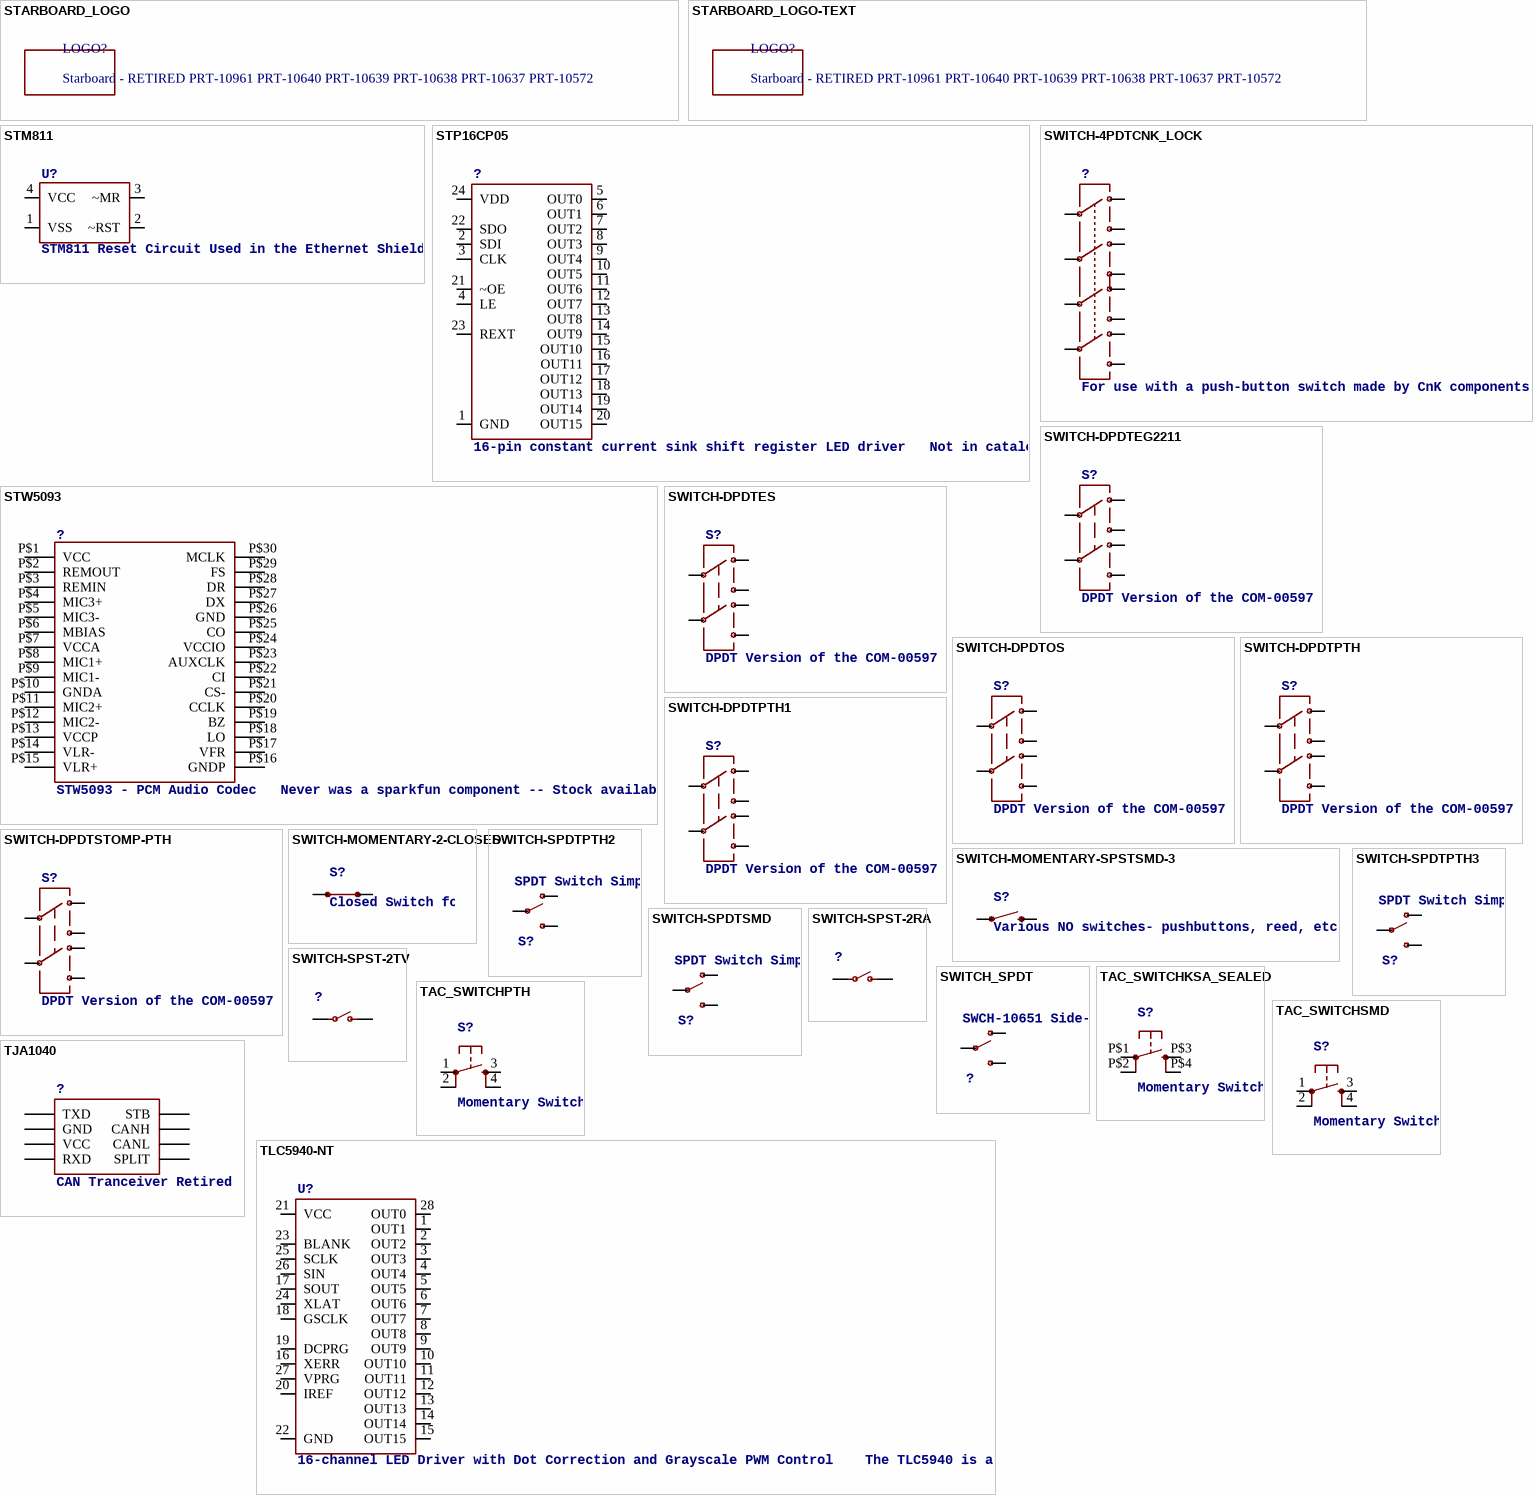
[diagram p24: symbols STARBOARD_LOGO to TLC5940-NT]

## STARBOARD_LOGO
designator LOGO?, comment Starboard - RETIRED PRT-10961 PRT-10640 PRT-10639 PRT-10638 PRT-10637 PRT-10572
footprint STARBOARD_LOGO

## STARBOARD_LOGO-TEXT
designator LOGO?, comment Starboard - RETIRED PRT-10961 PRT-10640 PRT-10639 PRT-10638 PRT-10637 PRT-10572
footprint STARBOARD_LOGO_TEXT

## STM811
designator U?, comment STM811 Reset Circuit Used in the Ethernet Shield
footprint SOT143
pins: 1 VSS, 2 ~RST, 3 ~MR, 4 VCC

## STP16CP05
designator ?, comment 16-pin constant current sink shift register LED driver   Not in catalog
footprint SO-24DW
pins: 1 GND, 2 SDI, 3 CLK, 4 LE, 5 OUT0, 6 OUT1, 7 OUT2, 8 OUT3, 9 OUT4, 10 OUT5, 11 OUT6, 12 OUT7, 13 OUT8, 14 OUT9, 15 OUT10, 16 OUT11, 17 OUT12, 18 OUT13, 19 OUT14, 20 OUT15, 21 ~OE, 22 SDO, 23 REXT, 24 VDD

## STW5093
designator ?, comment STW5093 - PCM Audio Codec   Never was a sparkfun component -- Stock available
footprint TSSOP30
pins: P$1 VCC, P$2 REMOUT, P$3 REMIN, P$4 MIC3+, P$5 MIC3-, P$6 MBIAS, P$7 VCCA, P$8 MIC1+, P$9 MIC1-, P$10 GNDA, P$11 MIC2+, P$12 MIC2-, P$13 VCCP, P$14 VLR-, P$15 VLR+, P$16 GNDP, P$17 VFR, P$18 LO, P$19 BZ, P$20 CCLK, P$21 CS-, P$22 CI, P$23 AUXCLK, P$24 VCCIO, P$25 CO, P$26 GND, P$27 DX, P$28 DR, P$29 FS, P$30 MCLK

## SWITCH-4PDTCNK_LOCK
designator ?, comment For use with a push-button switch made by CnK components.
PROD_ID: SWCH-09564
footprint SWITCH-4PDT-CNK
pins: PP$1 1, PP$2 2, PP$3 3, PP$4 4, PP$5 5, PP$6 6, PP$7 7, PP$8 8, PP$9 9, PP$10 10, PP$11 11, PP$12 12

## SWITCH-DPDTEG2211
designator S?, comment DPDT Version of the COM-00597
footprint EG2211
pins: P1 2, P1-TA 1, P1-TB 3, P2 5, P2-TA 4, P2-TB 6

## SWITCH-DPDTES
designator S?, comment DPDT Version of the COM-00597
footprint ES
pins: 1, 2, 3, 4, 5, 6

## SWITCH-DPDTOS
designator S?, comment DPDT Version of the COM-00597
footprint OS
pins: 1, 2, 3, 4, 5, 6

## SWITCH-DPDTPTH
designator S?, comment DPDT Version of the COM-00597
PROD_ID: SWCH-09244
footprint MSS22
pins: 1, 2, 3, 4, 5, 6

## SWITCH-DPDTPTH1
designator S?, comment DPDT Version of the COM-00597
SF_SKU: COM-11139
footprint MS
pins: 1, 2, 3, 4, 5, 6

## SWITCH-DPDTSTOMP-PTH
designator S?, comment DPDT Version of the COM-00597
PROD_ID: SWCH-12340; SF_SKU: COM-11151
footprint STOMP-SWITCH-DPDT
pins: P$1 1, P$2 2, P$3 3, P$4 4, P$5 5, P$6 6

## SWITCH-MOMENTARY-2-CLOSED
designator S?, comment Closed Switch for tutorial schematics.  Not intended for PCB design. Maps to 12mm tact switch, only because eagle won't place a part with no package defined. The ordinary SWITCH-MOMENTARY-2 is likely to be more useful for regular schematics.
footprint TACTILE-PTH-12MM
pins: 1, 3 2

## SWITCH-MOMENTARY-SPSTSMD-3
designator S?, comment Various NO switches- pushbuttons, reed, etc
footprint TACTILE_SWITCH_SMD-3
pins: 1, 4 2

## SWITCH-SPDTPTH2
designator S?, comment SPDT Switch Simple slide switch, Spark Fun Electronics SKU : COM-00102 DPDT SMT slide switch, AYZ0202, SWCH-08179
footprint SWITCH-DPDT
pins: 1 O, 2 P, 3 S

## SWITCH-SPDTPTH3
designator S?, comment SPDT Switch Simple slide switch, Spark Fun Electronics SKU : COM-00102 DPDT SMT slide switch, AYZ0202, SWCH-08179
footprint R_SW_TH
pins: P$1 O, P$2 P, P$3 S

## SWITCH-SPDTSMD
designator S?, comment SPDT Switch Simple slide switch, Spark Fun Electronics SKU : COM-00102 DPDT SMT slide switch, AYZ0202, SWCH-08179
footprint SWITCH_SPDT_SMD
pins: 1 O, 2 P, 3 S

## SWITCH-SPST-2RA
designator ?
footprint R_SW_TH
pins: P$3 O, P$4 P

## SWITCH-SPST-2TV
designator ?
footprint SWITCH-SPST-VERTICAL
pins: 1 O, 2 P

## SWITCH_SPDT
designator ?, comment SWCH-10651 Side-actuated SPDT slide switch, as used on the Arduino Pro
PROD_ID: SWCH-10651
footprint KPS-1290
pins: O, P, S

## TAC_SWITCHKSA_SEALED
designator S?, comment Momentary Switch Button commonly used for reset or general input. Spark Fun Electronics SKU : COM-00097 SMT- SWCH-08247
footprint KSA_SEALED_TAC_SWITCH
pins: P$1 1, P$2 2, P$3 3, P$4 4

## TAC_SWITCHPTH
designator S?, comment Momentary Switch Button commonly used for reset or general input. Spark Fun Electronics SKU : COM-00097 SMT- SWCH-08247
footprint TACTILE-PTH
pins: 1, 2, 3, 4

## TAC_SWITCHSMD
designator S?, comment Momentary Switch Button commonly used for reset or general input. Spark Fun Electronics SKU : COM-00097 SMT- SWCH-08247
PROD_ID: SWCH-08247
footprint TACTILE-SWITCH-SMD
pins: 1, 2, 3, 4

## TJA1040
designator ?, comment CAN Tranceiver Retired
footprint SO08
pins: 1 TXD, 2 GND, 3 VCC, 4 RXD, 5 SPLIT, 6 CANL, 7 CANH, 8 STB

## TLC5940-NT
designator U?, comment 16-channel LED Driver with Dot Correction and Grayscale PWM Control    The TLC5940 is a 16-channel, constant-current sink LED driver. Each channel has an individually adjustable 4096-step grayscale PWM brightness control and a 64-step, constant-current sink (dot correction). The dot correction adjusts the brightness variations between LED channels and other LED drivers. The dot correction data is stored in an integrated EEPROM. Both grayscale control and dot correction are accessible via a serial interface. A single external resistor sets the maximum current value of all 16 channels.   Packages: 28-pin HTSSOP  32-pin 5x5mm QFN  28-pin DIP
footprint DIL28-3
pins: 1 OUT1, 2 OUT2, 3 OUT3, 4 OUT4, 5 OUT5, 6 OUT6, 7 OUT7, 8 OUT8, 9 OUT9, 10 OUT10, 11 OUT11, 12 OUT12, 13 OUT13, 14 OUT14, 15 OUT15, 16 XERR, 17 SOUT, 18 GSCLK, 19 DCPRG, 20 IREF, 21 VCC, 22 GND, 23 BLANK, 24 XLAT, 25 SCLK, 26 SIN, 27 VPRG, 28 OUT0

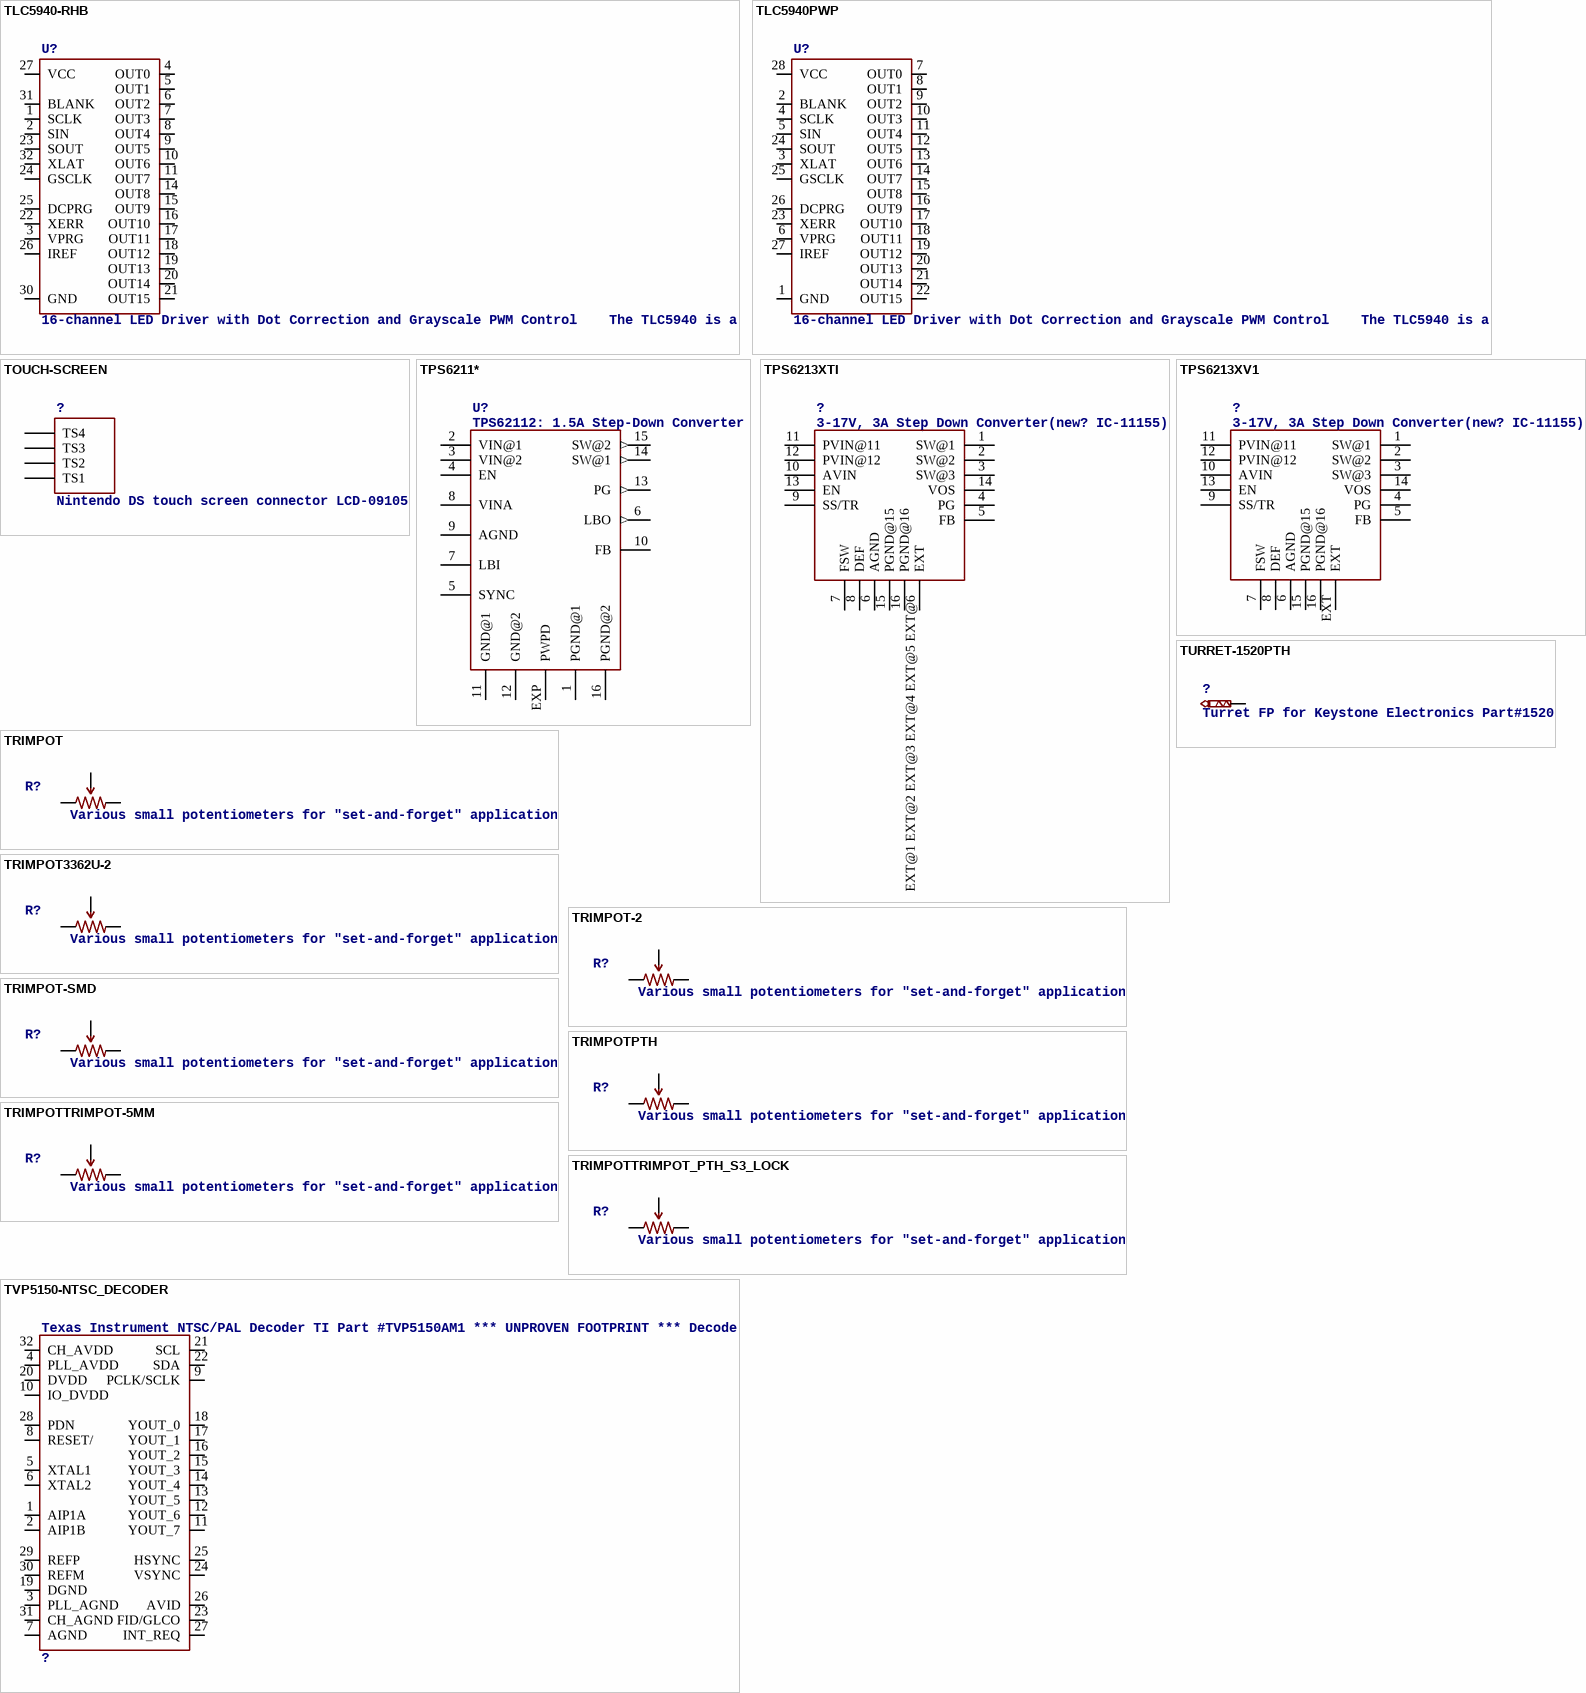
[diagram p25: symbols TLC5940-RHB to TVP5150-NTSC_DECODER]

## TLC5940-RHB
designator U?, comment 16-channel LED Driver with Dot Correction and Grayscale PWM Control    The TLC5940 is a 16-channel, constant-current sink LED driver. Each channel has an individually adjustable 4096-step grayscale PWM brightness control and a 64-step, constant-current sink (dot correction). The dot correction adjusts the brightness variations between LED channels and other LED drivers. The dot correction data is stored in an integrated EEPROM. Both grayscale control and dot correction are accessible via a serial interface. A single external resistor sets the maximum current value of all 16 channels.   Packages: 28-pin HTSSOP  32-pin 5x5mm QFN  28-pin DIP
PROD_ID: IC-10398
footprint QFN-32
pins: 1 SCLK, 2 SIN, 3 VPRG, 4 OUT0, 5 OUT1, 6 OUT2, 7 OUT3, 8 OUT4, 9 OUT5, 10 OUT6, 11 OUT7, 14 OUT8, 15 OUT9, 16 OUT10, 17 OUT11, 18 OUT12, 19 OUT13, 20 OUT14, 21 OUT15, 22 XERR, 23 SOUT, 24 GSCLK, 25 DCPRG, 26 IREF, 27 VCC, 30 GND, 31 BLANK, 32 XLAT

## TLC5940PWP
designator U?, comment 16-channel LED Driver with Dot Correction and Grayscale PWM Control    The TLC5940 is a 16-channel, constant-current sink LED driver. Each channel has an individually adjustable 4096-step grayscale PWM brightness control and a 64-step, constant-current sink (dot correction). The dot correction adjusts the brightness variations between LED channels and other LED drivers. The dot correction data is stored in an integrated EEPROM. Both grayscale control and dot correction are accessible via a serial interface. A single external resistor sets the maximum current value of all 16 channels.   Packages: 28-pin HTSSOP  32-pin 5x5mm QFN  28-pin DIP
footprint TSSOP28-GROUNDPAD
pins: 1 GND, 2 BLANK, 3 XLAT, 4 SCLK, 5 SIN, 6 VPRG, 7 OUT0, 8 OUT1, 9 OUT2, 10 OUT3, 11 OUT4, 12 OUT5, 13 OUT6, 14 OUT7, 15 OUT8, 16 OUT9, 17 OUT10, 18 OUT11, 19 OUT12, 20 OUT13, 21 OUT14, 22 OUT15, 23 XERR, 24 SOUT, 25 GSCLK, 26 DCPRG, 27 IREF, 28 VCC

## TOUCH-SCREEN
designator ?, comment Nintendo DS touch screen connector LCD-09105
footprint TOUCH-SCREEN
pins: P$1 TS4, P$2 TS3, P$3 TS2, P$4 TS1

## TPS6211*
designator U?, comment TPS62112: 1.5A Step-Down Converter
footprint QFN16-4X4
pins: 1 PGND@1 (power), 2 VIN@1 (power), 3 VIN@2 (power), 4 EN, 5 SYNC, 6 LBO (out), 7 LBI, 8 VINA (power), 9 AGND (power), 10 FB, 11 GND@1 (power), 12 GND@2 (power), 13 PG (out), 14 SW@1 (out), 15 SW@2 (out), 16 PGND@2 (power), EXP PWPD (power)

## TPS6213XTI
designator ?, comment 3-17V, 3A Step Down Converter(new? IC-11155)
footprint QFN16-3X3MM_TI
pins: 1 SW@1, 2 SW@2, 3 SW@3, 4 PG, 5 FB, 6 AGND, 7 FSW, 8 DEF, 9 SS/TR, 10 AVIN, 11 PVIN@11, 12 PVIN@12, 13 EN, 14 VOS, 15 PGND@15, 16 PGND@16, EXT@1 EXT@2 EXT@3 EXT@4 EXT@5 EXT@6 EXT

## TPS6213XV1
designator ?, comment 3-17V, 3A Step Down Converter(new? IC-11155)
PROD_ID: IC-11630
footprint QFN16-3X3MM
pins: 1 SW@1, 2 SW@2, 3 SW@3, 4 PG, 5 FB, 6 AGND, 7 FSW, 8 DEF, 9 SS/TR, 10 AVIN, 11 PVIN@11, 12 PVIN@12, 13 EN, 14 VOS, 15 PGND@15, 16 PGND@16, EXT

## TRIMPOT
designator R?, comment Various small potentiometers for "set-and-forget" applications
footprint TRIMPOT-5MM-V2
pins: A CCW, B WIPER, C CW

## TRIMPOT3362U-2
designator R?, comment Various small potentiometers for "set-and-forget" applications
PROD_ID: RES-08876
footprint 3362U-2
pins: 1 CCW, 2 WIPER, 3 CW

## TRIMPOT-2
designator R?, comment Various small potentiometers for "set-and-forget" applications
footprint TRIMPOT_TC33
pins: 1 CCW, 2 WIPER, 3 CW

## TRIMPOT-SMD
designator R?, comment Various small potentiometers for "set-and-forget" applications
PROD_ID: RES-08048
footprint TRIMPOT-3MM
pins: 1 CCW, 2 WIPER, 3 CW

## TRIMPOTPTH
designator R?, comment Various small potentiometers for "set-and-forget" applications
PROD_ID: RES-08445
footprint TRIM_POT_PTH
pins: 1 CCW, 2 WIPER, 3 CW

## TRIMPOTTRIMPOT-5MM
designator R?, comment Various small potentiometers for "set-and-forget" applications
PROD_ID: RES-11156
footprint TRIMPOT-5MM
pins: A CCW, B WIPER, C CW

## TRIMPOTTRIMPOT_PTH_S3_LOCK
designator R?, comment Various small potentiometers for "set-and-forget" applications
footprint TRIMPOT_PTH_S3_LOCK
pins: 1 CCW, 2 WIPER, 3 CW

## TURRET-1520PTH
designator ?, comment Turret FP for Keystone Electronics Part#1520
PROD_ID: CONN-09156
footprint 1X01_TURRET
pins: 1

## TVP5150-NTSC_DECODER
designator ?, comment Texas Instrument NTSC/PAL Decoder TI Part #TVP5150AM1 *** UNPROVEN FOOTPRINT *** Decodes NTSC video signal to YCbCr 4:2:2 signal  Retired: IC-09311 Retired: IC-09080
footprint TQFP32-5MM
pins: 1 AIP1A, 2 AIP1B, 3 PLL_AGND, 4 PLL_AVDD, 5 XTAL1, 6 XTAL2, 7 AGND, 8 RESET/, 9 PCLK/SCLK, 10 IO_DVDD, 11 YOUT_7, 12 YOUT_6, 13 YOUT_5, 14 YOUT_4, 15 YOUT_3, 16 YOUT_2, 17 YOUT_1, 18 YOUT_0, 19 DGND, 20 DVDD, 21 SCL, 22 SDA, 23 FID/GLCO, 24 VSYNC, 25 HSYNC, 26 AVID, 27 INT_REQ, 28 PDN, 29 REFP, 30 REFM, 31 CH_AGND, 32 CH_AVDD

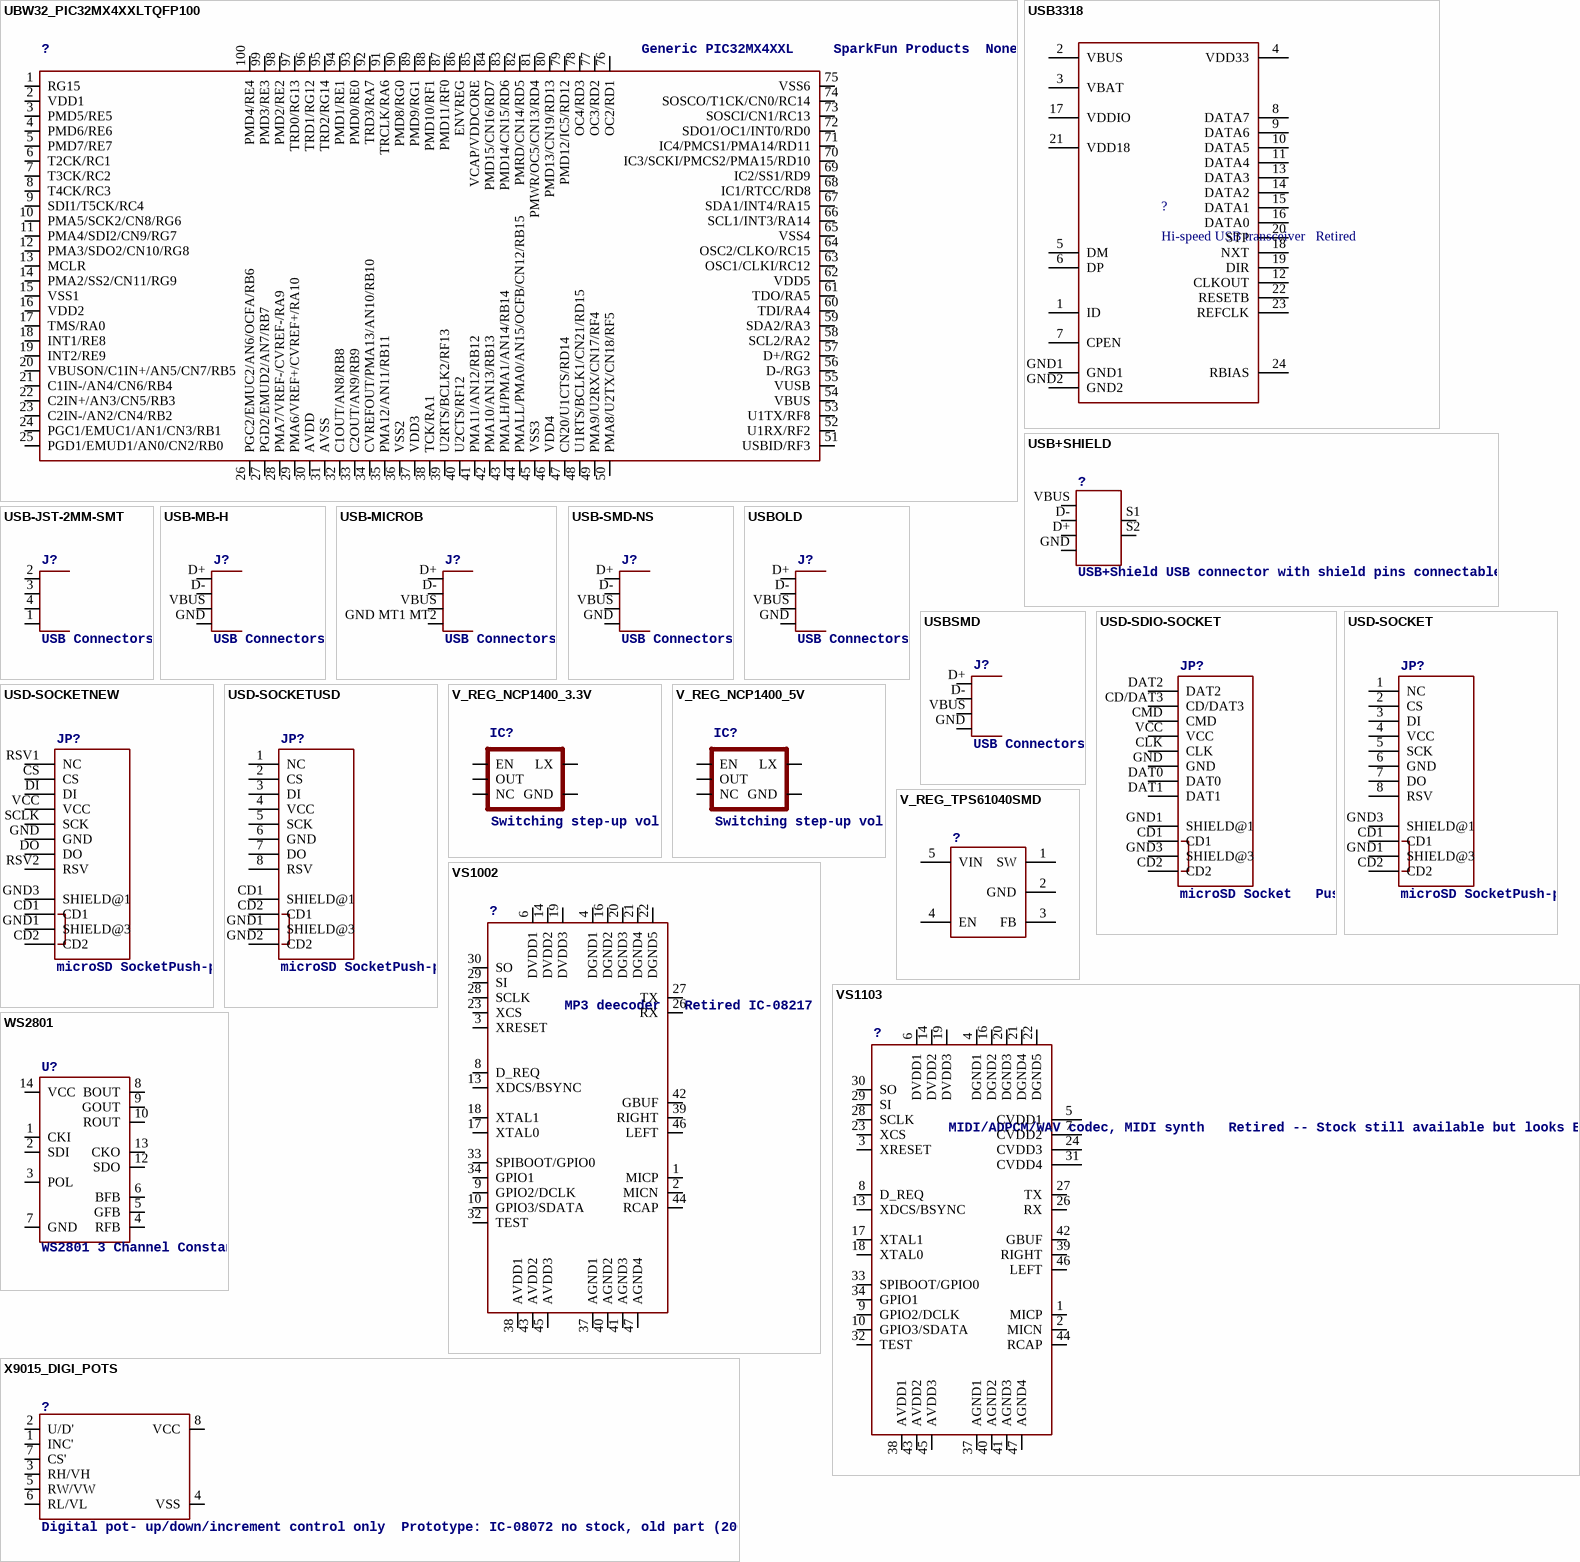
[diagram p26: symbols UBW32_PIC32MX4XXLTQFP100 to X9015_DIGI_POTS]

## UBW32_PIC32MX4XXLTQFP100
designator ?, comment Generic PIC32MX4XXL     SparkFun Products  None
footprint UBW32_TQFP100_MCU
pins: 1 RG15, 2 VDD1, 3 PMD5/RE5, 4 PMD6/RE6, 5 PMD7/RE7, 6 T2CK/RC1, 7 T3CK/RC2, 8 T4CK/RC3, 9 SDI1/T5CK/RC4, 10 PMA5/SCK2/CN8/RG6, 11 PMA4/SDI2/CN9/RG7, 12 PMA3/SDO2/CN10/RG8, 13 MCLR, 14 PMA2/SS2/CN11/RG9, 15 VSS1, 16 VDD2, 17 TMS/RA0, 18 INT1/RE8, 19 INT2/RE9, 20 VBUSON/C1IN+/AN5/CN7/RB5, 21 C1IN-/AN4/CN6/RB4, 22 C2IN+/AN3/CN5/RB3, 23 C2IN-/AN2/CN4/RB2, 24 PGC1/EMUC1/AN1/CN3/RB1, 25 PGD1/EMUD1/AN0/CN2/RB0, 26 PGC2/EMUC2/AN6/OCFA/RB6, 27 PGD2/EMUD2/AN7/RB7, 28 PMA7/VREF-/CVREF-/RA9, 29 PMA6/VREF+/CVREF+/RA10, 30 AVDD, 31 AVSS, 32 C1OUT/AN8/RB8, 33 C2OUT/AN9/RB9, 34 CVREFOUT/PMA13/AN10/RB10, 35 PMA12/AN11/RB11, 36 VSS2, 37 VDD3, 38 TCK/RA1, 39 U2RTS/BCLK2/RF13, 40 U2CTS/RF12, 41 PMA11/AN12/RB12, 42 PMA10/AN13/RB13, 43 PMALH/PMA1/AN14/RB14, 44 PMALL/PMA0/AN15/OCFB/CN12/RB15, 45 VSS3, 46 VDD4, 47 CN20/U1CTS/RD14, 48 U1RTS/BCLK1/CN21/RD15, 49 PMA9/U2RX/CN17/RF4, 50 PMA8/U2TX/CN18/RF5, 51 USBID/RF3, 52 U1RX/RF2, 53 U1TX/RF8, 54 VBUS, 55 VUSB, 56 D-/RG3, 57 D+/RG2, 58 SCL2/RA2, 59 SDA2/RA3, 60 TDI/RA4, 61 TDO/RA5, 62 VDD5, 63 OSC1/CLKI/RC12, 64 OSC2/CLKO/RC15, 65 VSS4, 66 SCL1/INT3/RA14, 67 SDA1/INT4/RA15, 68 IC1/RTCC/RD8, 69 IC2/SS1/RD9, 70 IC3/SCKI/PMCS2/PMA15/RD10, 71 IC4/PMCS1/PMA14/RD11, 72 SDO1/OC1/INT0/RD0, 73 SOSCI/CN1/RC13, 74 SOSCO/T1CK/CN0/RC14, 75 VSS6, 76 OC2/RD1, 77 OC3/RD2, 78 OC4/RD3, 79 PMD12/IC5/RD12, 80 PMD13/CN19/RD13, 81 PMWR/OC5/CN13/RD4, 82 PMRD/CN14/RD5, 83 PMD14/CN15/RD6, 84 PMD15/CN16/RD7, 85 VCAP/VDDCORE, 86 ENVREG, 87 PMD11/RF0, 88 PMD10/RF1, 89 PMD9/RG1, 90 PMD8/RG0, 91 TRCLK/RA6, 92 TRD3/RA7, 93 PMD0/RE0, 94 PMD1/RE1, 95 TRD2/RG14, 96 TRD1/RG12, 97 TRD0/RG13, 98 PMD2/RE2, 99 PMD3/RE3, 100 PMD4/RE4

## USB3318
designator ?, comment Hi-speed USB transceiver   Retired
footprint QFN-24-USB
pins: 1 ID, 2 VBUS, 3 VBAT, 4 VDD33, 5 DM, 6 DP, 7 CPEN, 8 DATA7, 9 DATA6, 10 DATA5, 11 DATA4, 12 CLKOUT, 13 DATA3, 14 DATA2, 15 DATA1, 16 DATA0, 17 VDDIO, 18 NXT, 19 DIR, 20 STP, 21 VDD18, 22 RESETB, 23 REFCLK, 24 RBIAS, GND1, GND2

## USB+SHIELD
designator ?, comment USB+Shield USB connector with shield pins connectable
footprint USB-B-PTH
pins: D+, D-, GND (power), S1, S2, VBUS (power)

## USB-JST-2MM-SMT
designator J?, comment USB Connectors   USB-B-PTH is fully proven SKU : PRT-00139/CONN-08278    USB-miniB is fully proven SKU : PRT-00587    USB-A-PCB is untested.    USB-A-H is throughly reviewed, but untested. Spark Fun Electronics SKU : PRT-00437    USB-B-SMT is throughly reviewed, but untested. Needs silkscreen touching up.    USB-A-S has not been used/tested    USB-MB-H has not been used/tested    USB-MICROB has been used. CONN-09505
PROD_ID: CONN-08193
footprint S4B-PH
pins: 1 GND, 2 D+, 3 D-, 4 VBUS

## USB-MB-H
designator J?, comment USB Connectors   USB-B-PTH is fully proven SKU : PRT-00139/CONN-08278    USB-miniB is fully proven SKU : PRT-00587    USB-A-PCB is untested.    USB-A-H is throughly reviewed, but untested. Spark Fun Electronics SKU : PRT-00437    USB-B-SMT is throughly reviewed, but untested. Needs silkscreen touching up.    USB-A-S has not been used/tested    USB-MB-H has not been used/tested    USB-MICROB has been used. CONN-09505
footprint USB-MB-H
pins: D+, D-, GND, VBUS

## USB-MICROB
designator J?, comment USB Connectors   USB-B-PTH is fully proven SKU : PRT-00139/CONN-08278    USB-miniB is fully proven SKU : PRT-00587    USB-A-PCB is untested.    USB-A-H is throughly reviewed, but untested. Spark Fun Electronics SKU : PRT-00437    USB-B-SMT is throughly reviewed, but untested. Needs silkscreen touching up.    USB-A-S has not been used/tested    USB-MB-H has not been used/tested    USB-MICROB has been used. CONN-09505
PROD_ID: CONN-09505
footprint USB-MICROB
pins: D+, D-, GND MT1 MT2 GND, VBUS

## USB-SMD-NS
designator J?, comment USB Connectors   USB-B-PTH is fully proven SKU : PRT-00139/CONN-08278    USB-miniB is fully proven SKU : PRT-00587    USB-A-PCB is untested.    USB-A-H is throughly reviewed, but untested. Spark Fun Electronics SKU : PRT-00437    USB-B-SMT is throughly reviewed, but untested. Needs silkscreen touching up.    USB-A-S has not been used/tested    USB-MB-H has not been used/tested    USB-MICROB has been used. CONN-09505
footprint USB-MINIB-NOSTOP
pins: D+, D-, GND, VBUS

## USBOLD
designator J?, comment USB Connectors   USB-B-PTH is fully proven SKU : PRT-00139/CONN-08278    USB-miniB is fully proven SKU : PRT-00587    USB-A-PCB is untested.    USB-A-H is throughly reviewed, but untested. Spark Fun Electronics SKU : PRT-00437    USB-B-SMT is throughly reviewed, but untested. Needs silkscreen touching up.    USB-A-S has not been used/tested    USB-MB-H has not been used/tested    USB-MICROB has been used. CONN-09505
footprint USB-MINIB-OLD
pins: D+, D-, GND, VBUS

## USBSMD
designator J?, comment USB Connectors   USB-B-PTH is fully proven SKU : PRT-00139/CONN-08278    USB-miniB is fully proven SKU : PRT-00587    USB-A-PCB is untested.    USB-A-H is throughly reviewed, but untested. Spark Fun Electronics SKU : PRT-00437    USB-B-SMT is throughly reviewed, but untested. Needs silkscreen touching up.    USB-A-S has not been used/tested    USB-MB-H has not been used/tested    USB-MICROB has been used. CONN-09505
PROD_ID: CONN-08193
footprint USB-MINIB
pins: D+, D-, GND, VBUS

## USD-SDIO-SOCKET
designator JP?, comment microSD Socket   Push-push type uSD socket with full SDIO signal mapping. Spark Fun Electronics SKU : PRT-00127. tDoc lines correctly indicate media card edge positions when inserting (unlocked, locked, depressed). NOTE: CD1 and CD2 are connected internally, and short to ground when card is removed.
PROD_ID: CONN-07820
footprint MICRO-SD-SOCKET-SDIO
pins: CD1, CD2, CD/DAT3, CLK, CMD, DAT0, DAT1, DAT2, GND, GND1 SHIELD@1, GND3 SHIELD@3, VCC

## USD-SOCKET
designator JP?, comment microSD SocketPush-push type uSD socket. Schematic element and footprint production proven. Spark Fun Electronics SKU : PRT-00127. tDoc lines correctly indicate media card edge positions when inserting (unlocked, locked, depressed). NOTE: CD1 and CD2 are connected internally
PROD_ID: CONN-07820
footprint MICROSD_1:1
pins: 1 NC, 2 CS, 3 DI, 4 VCC, 5 SCK, 6 GND, 7 DO, 8 RSV, CD1, CD2, GND1 SHIELD@3, GND3 SHIELD@1

## USD-SOCKETNEW
designator JP?, comment microSD SocketPush-push type uSD socket. Schematic element and footprint production proven. Spark Fun Electronics SKU : PRT-00127. tDoc lines correctly indicate media card edge positions when inserting (unlocked, locked, depressed). NOTE: CD1 and CD2 are connected internally
PROD_ID: CONN-07820
footprint MICRO-SD-SOCKET-PP
pins: CD1, CD2, CS, DI, DO, GND, GND1 SHIELD@3, GND3 SHIELD@1, RSV1 NC, RSV2 RSV, SCLK SCK, VCC

## USD-SOCKETUSD
designator JP?, comment microSD SocketPush-push type uSD socket. Schematic element and footprint production proven. Spark Fun Electronics SKU : PRT-00127. tDoc lines correctly indicate media card edge positions when inserting (unlocked, locked, depressed). NOTE: CD1 and CD2 are connected internally
footprint USD-SOCKET-PP
pins: 1 NC, 2 CS, 3 DI, 4 VCC, 5 SCK, 6 GND, 7 DO, 8 RSV, CD1 SHIELD@1, CD2 CD1, GND1 SHIELD@3, GND2 CD2

## V_REG_NCP1400_3.3V
designator IC?, comment Switching step-up voltage regulatorNCP1400 switiching regulator takes single cell AA and outputs 100mA at 3.3V or 5V with minimal number of external components.
PROD_ID: IC-10788
footprint SOT23-5
pins: 1 EN, 2 OUT, 3 NC, 4 GND, 5 LX

## V_REG_NCP1400_5V
designator IC?, comment Switching step-up voltage regulatorNCP1400 switiching regulator takes single cell AA and outputs 100mA at 3.3V or 5V with minimal number of external components.
PROD_ID: IC-10787
footprint SOT23-5
pins: 1 EN, 2 OUT, 3 NC, 4 GND, 5 LX

## V_REG_TPS61040SMD
designator ?
footprint SOT23-5
pins: 1 SW, 2 GND, 3 FB, 4 EN, 5 VIN

## VS1002
designator ?, comment MP3 deecoder   Retired IC-08217
footprint LQFP-48
pins: 1 MICP, 2 MICN, 3 XRESET, 4 DGND1 (power), 6 DVDD1 (power), 8 D_REQ, 9 GPIO2/DCLK, 10 GPIO3/SDATA, 13 XDCS/BSYNC, 14 DVDD2 (power), 16 DGND2, 17 XTAL0, 18 XTAL1, 19 DVDD3 (power), 20 DGND3, 21 DGND4, 22 DGND5, 23 XCS, 26 RX, 27 TX, 28 SCLK, 29 SI, 30 SO, 32 TEST, 33 SPIBOOT/GPIO0, 34 GPIO1, 37 AGND1, 38 AVDD1 (power), 39 RIGHT, 40 AGND2, 41 AGND3, 42 GBUF, 43 AVDD2 (power), 44 RCAP, 45 AVDD3 (power), 46 LEFT, 47 AGND4

## VS1103
designator ?, comment MIDI/ADPCM/WAV codec, MIDI synth   Retired -- Stock still available but looks EOL
footprint LQFP-48
pins: 1 MICP, 2 MICN, 3 XRESET, 4 DGND1 (power), 5 CVDD1, 6 DVDD1 (power), 7 CVDD2, 8 D_REQ, 9 GPIO2/DCLK, 10 GPIO3/SDATA, 13 XDCS/BSYNC, 14 DVDD2 (power), 16 DGND2, 17 XTAL1, 18 XTAL0, 19 DVDD3 (power), 20 DGND3, 21 DGND4, 22 DGND5, 23 XCS, 24 CVDD3, 26 RX, 27 TX, 28 SCLK, 29 SI, 30 SO, 31 CVDD4, 32 TEST, 33 SPIBOOT/GPIO0, 34 GPIO1, 37 AGND1, 38 AVDD1 (power), 39 RIGHT, 40 AGND2, 41 AGND3, 42 GBUF, 43 AVDD2 (power), 44 RCAP, 45 AVDD3 (power), 46 LEFT, 47 AGND4

## WS2801
designator U?, comment WS2801 3 Channel Constant Current LED Driver with programmable PWM outputs.   Datasheet:  http://www.sparkfun.com/datasheets/Components/LED/WS2801.pdf   RETIRED: IC-10297 (also, wrong cat)
footprint SOP-14
pins: 1 CKI, 2 SDI, 3 POL, 4 RFB, 5 GFB, 6 BFB, 7 GND, 8 BOUT, 9 GOUT, 10 ROUT, 12 SDO, 13 CKO, 14 VCC

## X9015_DIGI_POTS
designator ?, comment Digital pot- up/down/increment control only  Prototype: IC-08072 no stock, old part (2008-2010)
footprint SO08
pins: 1 INC', 2 U/D', 3 RH/VH, 4 VSS (power), 5 RW/VW, 6 RL/VL, 7 CS', 8 VCC (power)

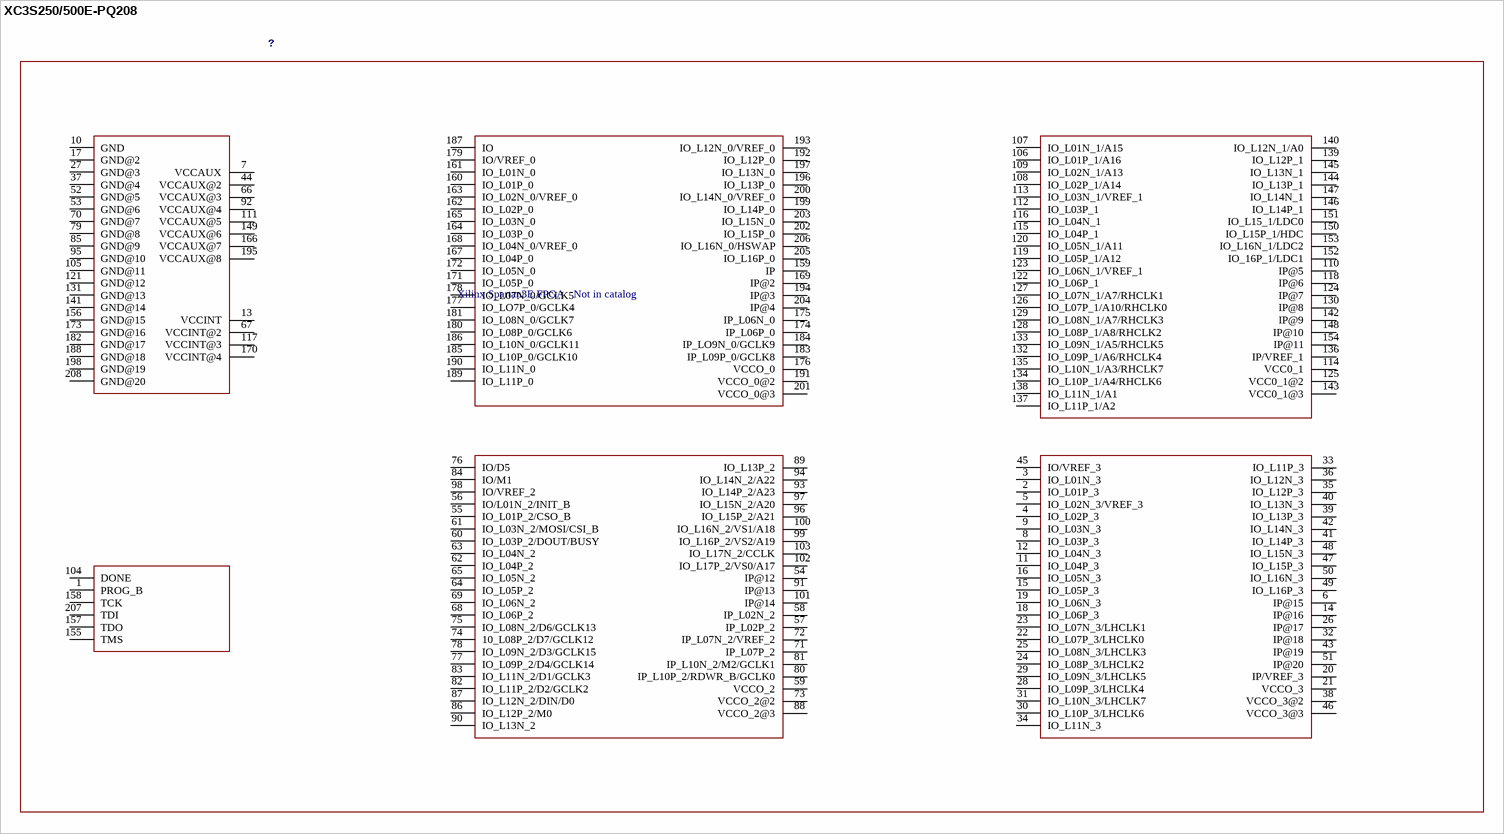
[diagram p27: symbol XC3S250/500E-PQ208]

## XC3S250/500E-PQ208
designator ?, comment Xilinx Spartan3E FPGA   Not in catalog
footprint PQ208
pins: 1 PROG_B, 2 IO_L01P_3, 3 IO_L01N_3, 4 IO_L02P_3, 5 IO_L02N_3/VREF_3, 6 IP@15, 7 VCCAUX, 8 IO_L03P_3, 9 IO_L03N_3, 10 GND, 11 IO_L04P_3, 12 IO_L04N_3, 13 VCCINT, 14 IP@16, 15 IO_L05P_3, 16 IO_L05N_3, 17 GND@2, 18 IO_L06P_3, 19 IO_L06N_3, 20 IP/VREF_3, 21 VCCO_3, 22 IO_L07P_3/LHCLK0, 23 IO_L07N_3/LHCLK1, 24 IO_L08P_3/LHCLK2, 25 IO_L08N_3/LHCLK3, 26 IP@17, 27 GND@3, 28 IO_L09P_3/LHCLK4, 29 IO_L09N_3/LHCLK5, 30 IO_L10P_3/LHCLK6, 31 IO_L10N_3/LHCLK7, 32 IP@18, 33 IO_L11P_3, 34 IO_L11N_3, 35 IO_L12P_3, 36 IO_L12N_3, 37 GND@4, 38 VCCO_3@2, 39 IO_L13P_3, 40 IO_L13N_3, 41 IO_L14P_3, 42 IO_L14N_3, 43 IP@19, 44 VCCAUX@2, 45 IO/VREF_3, 46 VCCO_3@3, 47 IO_L15P_3, 48 IO_L15N_3, 49 IO_L16P_3, 50 IO_L16N_3, 51 IP@20, 52 GND@5, 53 GND@6, 54 IP@12, 55 IO_L01P_2/CSO_B, 56 IO/L01N_2/INIT_B, 57 IP_L02P_2, 58 IP_L02N_2, 59 VCCO_2, 60 IO_L03P_2/DOUT/BUSY, 61 IO_L03N_2/MOSI/CSI_B, 62 IO_L04P_2, 63 IO_L04N_2, 64 IO_L05P_2, 65 IO_L05N_2, 66 VCCAUX@3, 67 VCCINT@2, 68 IO_L06P_2, 69 IO_L06N_2, 70 GND@7, 71 IP_L07P_2, 72 IP_L07N_2/VREF_2, 73 VCCO_2@2, 74 10_L08P_2/D7/GCLK12, 75 IO_L08N_2/D6/GCLK13, 76 IO/D5, 77 IO_L09P_2/D4/GCLK14, 78 IO_L09N_2/D3/GCLK15, 79 GND@8, 80 IP_L10P_2/RDWR_B/GCLK0, 81 IP_L10N_2/M2/GCLK1, 82 IO_L11P_2/D2/GCLK2, 83 IO_L11N_2/D1/GCLK3, 84 IO/M1, 85 GND@9, 86 IO_L12P_2/M0, 87 IO_L12N_2/DIN/D0, 88 VCCO_2@3, 89 IO_L13P_2, 90 IO_L13N_2, 91 IP@13, 92 VCCAUX@4, 93 IO_L14P_2/A23, 94 IO_L14N_2/A22, 95 GND@10, 96 IO_L15P_2/A21, 97 IO_L15N_2/A20, 98 IO/VREF_2, 99 IO_L16P_2/VS2/A19, 100 IO_L16N_2/VS1/A18, 101 IP@14, 102 IO_L17P_2/VS0/A17, 103 IO_L17N_2/CCLK, 104 DONE, 105 GND@11, 106 IO_L01P_1/A16, 107 IO_L01N_1/A15, 108 IO_L02P_1/A14, 109 IO_L02N_1/A13, 110 IP@5, 111 VCCAUX@5, 112 IO_L03P_1, 113 IO_L03N_1/VREF_1, 114 VCC0_1, 115 IO_L04P_1, 116 IO_L04N_1, 117 VCCINT@3, 118 IP@6, 119 IO_L05P_1/A12, 120 IO_L05N_1/A11, 121 GND@12, 122 IO_L06P_1, 123 IO_L06N_1/VREF_1, 124 IP@7, 125 VCC0_1@2, 126 IO_L07P_1/A10/RHCLK0, 127 IO_L07N_1/A7/RHCLK1, 128 IO_L08P_1/A8/RHCLK2, 129 IO_L08N_1/A7/RHCLK3, 130 IP@8, 131 GND@13, 132 IO_L09P_1/A6/RHCLK4, 133 IO_L09N_1/A5/RHCLK5, 134 IO_L10P_1/A4/RHCLK6, 135 IO_L10N_1/A3/RHCLK7, 136 IP/VREF_1, 137 IO_L11P_1/A2, 138 IO_L11N_1/A1, 139 IO_L12P_1, 140 IO_L12N_1/A0, 141 GND@14, 142 IP@9, 143 VCC0_1@3, 144 IO_L13P_1, 145 IO_L13N_1, 146 IO_L14P_1, 147 IO_L14N_1, 148 IP@10, 149 VCCAUX@6, 150 IO_L15P_1/HDC, 151 IO_L15_1/LDC0, 152 IO_16P_1/LDC1, 153 IO_L16N_1/LDC2, 154 IP@11, 155 TMS, 156 GND@15, 157 TDO, 158 TCK, 159 IP, 160 IO_L01P_0, 161 IO_L01N_0, 162 IO_L02P_0, 163 IO_L02N_0/VREF_0, 164 IO_L03P_0, 165 IO_L03N_0, 166 VCCAUX@7, 167 IO_L04P_0, 168 IO_L04N_0/VREF_0, 169 IP@2, 170 VCCINT@4, 171 IO_L05P_0, 172 IO_L05N_0, 173 GND@16, 174 IP_L06P_0, 175 IP_L06N_0, 176 VCCO_0, 177 IO_LO7P_0/GCLK4, 178 IO_L07N_0/GCLK5, 179 IO/VREF_0, 180 IO_L08P_0/GCLK6, 181 IO_L08N_0/GCLK7, 182 GND@17, 183 IP_L09P_0/GCLK8, 184 IP_LO9N_0/GCLK9, 185 IO_L10P_0/GCLK10, 186 IO_L10N_0/GCLK11, 187 IO, 188 GND@18, 189 IO_L11P_0, 190 IO_L11N_0, 191 VCCO_0@2, 192 IO_L12P_0, 193 IO_L12N_0/VREF_0, 194 IP@3, 195 VCCAUX@8, 196 IO_L13P_0, 197 IO_L13N_0, 198 GND@19, 199 IO_L14P_0, 200 IO_L14N_0/VREF_0, 201 VCCO_0@3, 202 IO_L15P_0, 203 IO_L15N_0, 204 IP@4, 205 IO_L16P_0, 206 IO_L16N_0/HSWAP, 207 TDI, 208 GND@20

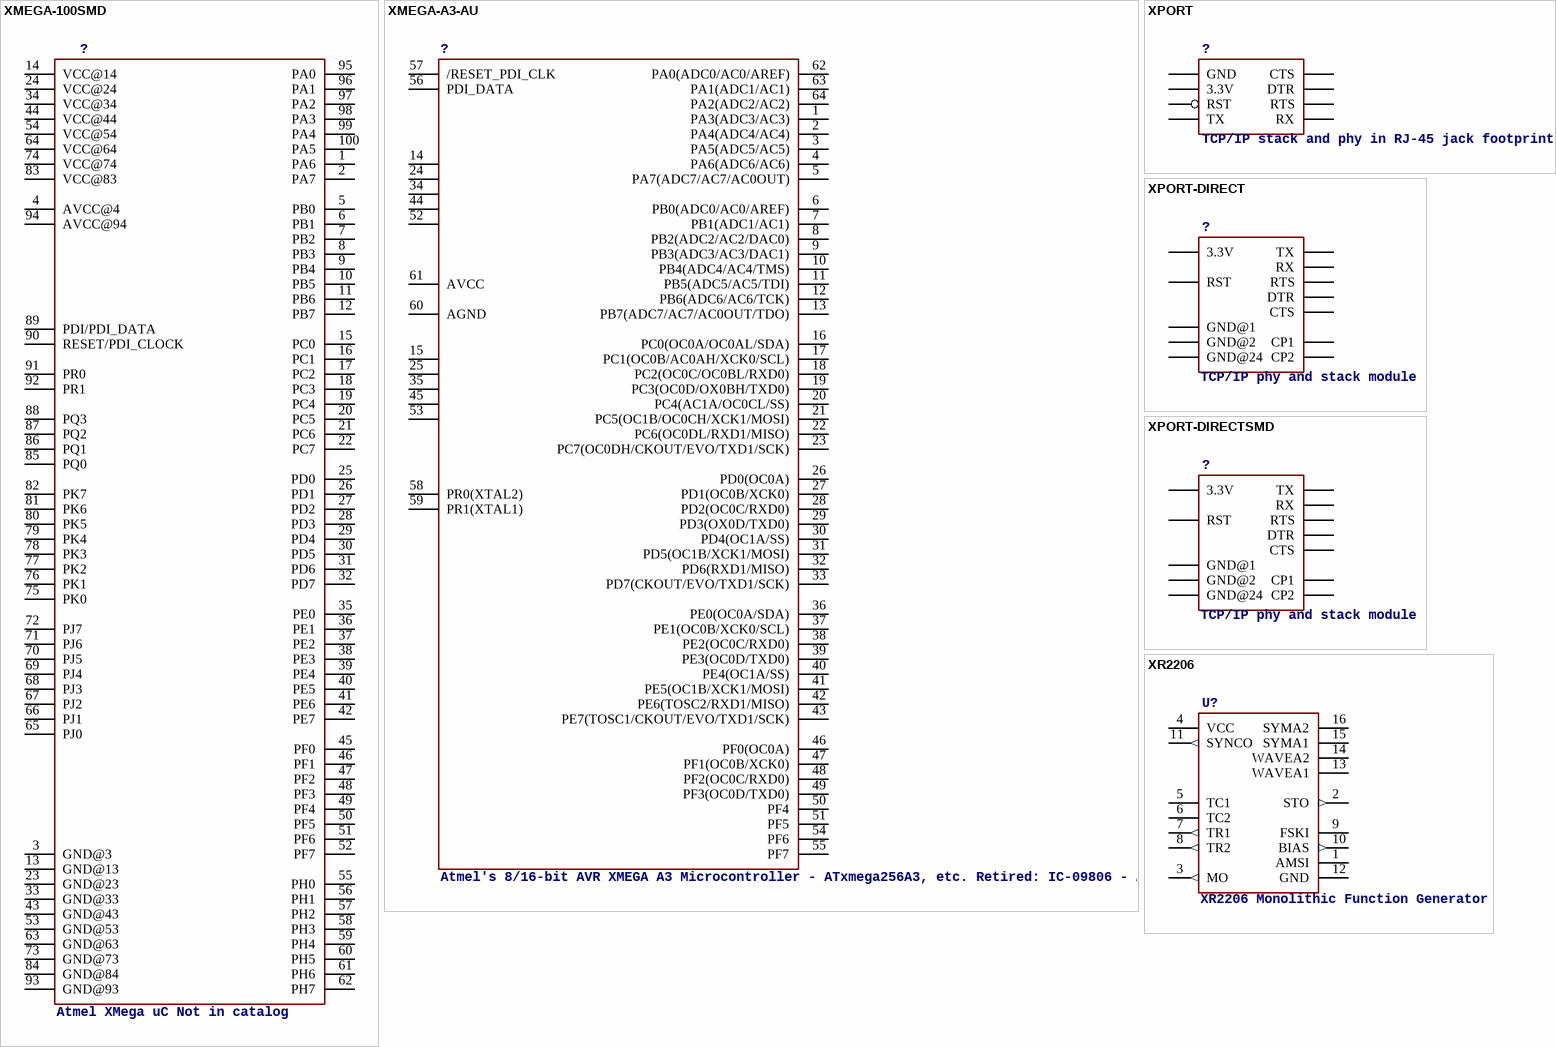
[diagram p28: symbols XMEGA-100SMD to XR2206]

## XMEGA-100SMD
designator ?, comment Atmel XMega uC Not in catalog
footprint TQFP-100-14X14MM_MCU
pins: 1 PA6, 2 PA7, 3 GND@3, 4 AVCC@4, 5 PB0, 6 PB1, 7 PB2, 8 PB3, 9 PB4, 10 PB5, 11 PB6, 12 PB7, 13 GND@13, 14 VCC@14, 15 PC0, 16 PC1, 17 PC2, 18 PC3, 19 PC4, 20 PC5, 21 PC6, 22 PC7, 23 GND@23, 24 VCC@24, 25 PD0, 26 PD1, 27 PD2, 28 PD3, 29 PD4, 30 PD5, 31 PD6, 32 PD7, 33 GND@33, 34 VCC@34, 35 PE0, 36 PE1, 37 PE2, 38 PE3, 39 PE4, 40 PE5, 41 PE6, 42 PE7, 43 GND@43, 44 VCC@44, 45 PF0, 46 PF1, 47 PF2, 48 PF3, 49 PF4, 50 PF5, 51 PF6, 52 PF7, 53 GND@53, 54 VCC@54, 55 PH0, 56 PH1, 57 PH2, 58 PH3, 59 PH4, 60 PH5, 61 PH6, 62 PH7, 63 GND@63, 64 VCC@64, 65 PJ0, 66 PJ1, 67 PJ2, 68 PJ3, 69 PJ4, 70 PJ5, 71 PJ6, 72 PJ7, 73 GND@73, 74 VCC@74, 75 PK0, 76 PK1, 77 PK2, 78 PK3, 79 PK4, 80 PK5, 81 PK6, 82 PK7, 83 VCC@83, 84 GND@84, 85 PQ0, 86 PQ1, 87 PQ2, 88 PQ3, 89 PDI/PDI_DATA, 90 RESET/PDI_CLOCK, 91 PR0, 92 PR1, 93 GND@93, 94 AVCC@94, 95 PA0, 96 PA1, 97 PA2, 98 PA3, 99 PA4, 100 PA5

## XMEGA-A3-AU
designator ?, comment Atmel's 8/16-bit AVR XMEGA A3 Microcontroller - ATxmega256A3, etc. Retired: IC-09806 - ATXMEGA256A3 Retired: IC-09429 - ATXMEGA128A1
footprint TQFP64_14X14MM_MCU
pins: 1 PA3(ADC3/AC3), 2 PA4(ADC4/AC4), 3 PA5(ADC5/AC5), 4 PA6(ADC6/AC6), 5 PA7(ADC7/AC7/AC0OUT), 6 PB0(ADC0/AC0/AREF), 7 PB1(ADC1/AC1), 8 PB2(ADC2/AC2/DAC0), 9 PB3(ADC3/AC3/DAC1), 10 PB4(ADC4/AC4/TMS), 11 PB5(ADC5/AC5/TDI), 12 PB6(ADC6/AC6/TCK), 13 PB7(ADC7/AC7/AC0OUT/TDO), 14 GND1, 15 VCC1, 16 PC0(OC0A/OC0AL/SDA), 17 PC1(OC0B/AC0AH/XCK0/SCL), 18 PC2(OC0C/OC0BL/RXD0), 19 PC3(OC0D/OX0BH/TXD0), 20 PC4(AC1A/OC0CL/SS), 21 PC5(OC1B/OC0CH/XCK1/MOSI), 22 PC6(OC0DL/RXD1/MISO), 23 PC7(OC0DH/CKOUT/EVO/TXD1/SCK), 24 GND2, 25 VCC2, 26 PD0(OC0A), 27 PD1(OC0B/XCK0), 28 PD2(OC0C/RXD0), 29 PD3(OX0D/TXD0), 30 PD4(OC1A/SS), 31 PD5(OC1B/XCK1/MOSI), 32 PD6(RXD1/MISO), 33 PD7(CKOUT/EVO/TXD1/SCK), 34 GND3, 35 VCC3, 36 PE0(OC0A/SDA), 37 PE1(OC0B/XCK0/SCL), 38 PE2(OC0C/RXD0), 39 PE3(OC0D/TXD0), 40 PE4(OC1A/SS), 41 PE5(OC1B/XCK1/MOSI), 42 PE6(TOSC2/RXD1/MISO), 43 PE7(TOSC1/CKOUT/EVO/TXD1/SCK), 44 GND4, 45 VCC4, 46 PF0(OC0A), 47 PF1(OC0B/XCK0), 48 PF2(OC0C/RXD0), 49 PF3(OC0D/TXD0), 50 PF4, 51 PF5, 52 GND5, 53 VCC5, 54 PF6, 55 PF7, 56 PDI_DATA, 57 /RESET_PDI_CLK, 58 PR0(XTAL2), 59 PR1(XTAL1), 60 AGND, 61 AVCC, 62 PA0(ADC0/AC0/AREF), 63 PA1(ADC1/AC1), 64 PA2(ADC2/AC2)